# Altium schematic symbol library RD3399-20181013_Library.SchLib: 411 symbols (part 11 of 13)
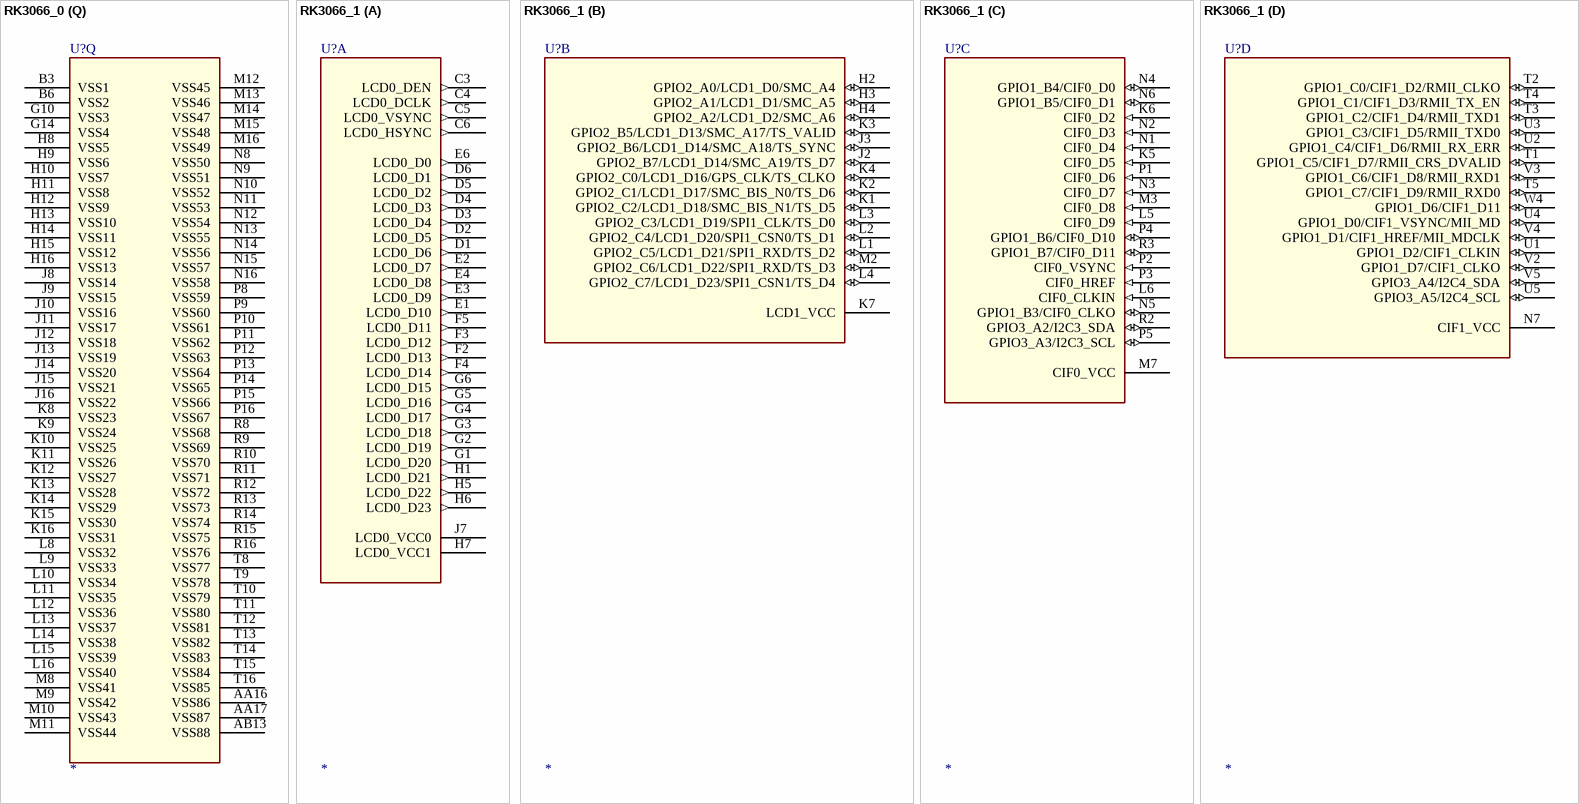
[diagram p195: symbols RK3066_0 to RK3066_1]

## RK3066_0
designator U?
footprint BGA453
part A pins: C3 LCD0_DEN (out), C4 LCD0_DCLK (out), C5 LCD0_VSYNC (out), C6 LCD0_HSYNC (out), D1 LCD0_D6 (out), D2 LCD0_D5 (out), D3 LCD0_D4 (out), D4 LCD0_D3 (out), D5 LCD0_D2 (out), D6 LCD0_D1 (out), E1 LCD0_D10 (out), E2 LCD0_D7 (out), E3 LCD0_D9 (out), E4 LCD0_D8 (out), E6 LCD0_D0 (out), F2 LCD0_D13 (out), F3 LCD0_D12 (out), F4 LCD0_D14 (out), F5 LCD0_D11 (out), G1 LCD0_D20 (out), G2 LCD0_D19 (out), G3 LCD0_D18 (out), G4 LCD0_D17 (out), G5 LCD0_D16 (out), G6 LCD0_D15 (out), H1 LCD0_D21 (out), H5 LCD0_D22 (out), H6 LCD0_D23 (out), H7 LCD0_VCC1 (power), J7 LCD0_VCC0 (power)
part B pins: H2 GPIO2_A0/LCD1_D0/SMC_A4 (io), H3 GPIO2_A1/LCD1_D1/SMC_A5 (io), H4 GPIO2_A2/LCD1_D2/SMC_A6 (io), J2 GPIO2_B7/LCD1_D14/SMC_A19/TS_D7 (io), J3 GPIO2_B6/LCD1_D14/SMC_A18/TS_SYNC (io), K1 GPIO2_C2/LCD1_D18/SMC_BIS_N1/TS_D5 (io), K2 GPIO2_C1/LCD1_D17/SMC_BIS_N0/TS_D6 (io), K3 GPIO2_B5/LCD1_D13/SMC_A17/TS_VALID (io), K4 GPIO2_C0/LCD1_D16/GPS_CLK/TS_CLKO (io), K7 LCD1_VCC (power), L1 GPIO2_C5/LCD1_D21/SPI1_RXD/TS_D2 (io), L2 GPIO2_C4/LCD1_D20/SPI1_CSN0/TS_D1 (io), L3 GPIO2_C3/LCD1_D19/SPI1_CLK/TS_D0 (io), L4 GPIO2_C7/LCD1_D23/SPI1_CSN1/TS_D4 (io), M2 GPIO2_C6/LCD1_D22/SPI1_RXD/TS_D3 (io)
part C pins: K5 CIF0_D5 (in), K6 CIF0_D2 (in), L5 CIF0_D9 (in), L6 CIF0_CLKIN (in), M3 CIF0_D8 (in), M7 CIF0_VCC (power), N1 CIF0_D4 (in), N2 CIF0_D3 (in), N3 CIF0_D7 (in), N4 GPIO1_B4/CIF0_D0 (io), N5 GPIO1_B3/CIF0_CLKO (io), N6 GPIO1_B5/CIF0_D1 (io), P1 CIF0_D6 (in), P2 CIF0_VSYNC (in), P3 CIF0_HREF (in), P4 GPIO1_B6/CIF0_D10 (io), P5 GPIO3_A3/I2C3_SCL (io), R2 GPIO3_A2/I2C3_SDA (io), R3 GPIO1_B7/CIF0_D11 (io)
part D pins: N7 CIF1_VCC (power), T1 GPIO1_C5/CIF1_D7/RMII_CRS_DVALID (io), T2 GPIO1_C0/CIF1_D2/RMII_CLKO (io), T3 GPIO1_C2/CIF1_D4/RMII_TXD1 (io), T4 GPIO1_C1/CIF1_D3/RMII_TX_EN (io), T5 GPIO1_C7/CIF1_D9/RMII_RXD0 (io), U1 GPIO1_D2/CIF1_CLKIN (io), U2 GPIO1_C4/CIF1_D6/RMII_RX_ERR (io), U3 GPIO1_C3/CIF1_D5/RMII_TXD0 (io), U4 GPIO1_D0/CIF1_VSYNC/MII_MD (io), U5 GPIO3_A5/I2C4_SCL (io), V2 GPIO1_D7/CIF1_CLKO (io), V3 GPIO1_C6/CIF1_D8/RMII_RXD1 (io), V4 GPIO1_D1/CIF1_HREF/MII_MDCLK (io), V5 GPIO3_A4/I2C4_SDA (io), W4 GPIO1_D6/CIF1_D11 (io)
part E pins: AA2 GPIO6_A4 (io), AA3 GPIO6_A5 (io), AA15 PVCC_3V3 (power), AB1 GPIO6_B0 (io), AB2 GPIO6_B1 (io), AB3 GPIO6_A1 (io), AB4 GPIO6_A7 (io), AB14 XOUT24M (out), AC1 GPIO6_A0 (io), AC2 GPIO6_A3 (io), AC4 GPIO6_A2 (io), AC5 GPIO6_A6 (io), AC13 DDRIO_RET_EN (out), AC14 XIN24M (in), U12 AVSS_APLL (power), U13 AVSS_DPLL (power), U14 AVSS_C/GPLL (power), V11 APLL_1V1 (power), V13 DPLL_1V1 (power), V14 C/GPLL_1V1 (power), V17 EFUSE (in), W13 PVDD_1V1 (power), Y1 CPU_PWROFF (out), Y2 CORE_PWROFF (out), Y3 DDRIO_PWROFF (out), Y4 GPIO6_B2 (io), Y5 GPIO6_B3 (io), Y13 CLKIN_32K (in), Y14 NPOR (in)
part F pins: AB15 HOST_RKELVIN (out), AB16 OTG_DM (io), AB17 HOST_DM (io), AC16 OTG_DP (io), AC17 HOST_DP (io), F19 GPIO0_A6/HOST_DRV (io), F20 TDO (out), G19 TDI/CPR_BYPASS (in), G20 TRSTN (in), H18 TCK/HSSCAN_SHIFT_CLOCK (in), H19 TMS/PLL_BYPASS (io), H20 RECOVER (in), P20 GPIO0_A5/OTG_DRV (io), U15 USBVDD_1V1 (power), U16 USBVDD_2V5 (power), V16 USBVDD_3V3 (power), W1 SARADC_ANI0 (in), W2 SARADC_ANI2 (in), W3 SARADC_ANI1 (in), W16 OTG_RKELVIN (out), W17 OTG_VBUS (in), Y17 OTG_ID (in)
part G pins: AA4 GPIO1_A4/UART1_RX/SPI0_CSN0 (io), AA5 GPIO4_B7/SPI0_CSN1 (io), AB5 GPIO1_A5/UART1_TX/SPI0_CLK (io), AB6 GPIO1_A6/UART1_CTSN/SPI0_RXD (io), AC7 GPIO1_A7/UART1_RTSN/SPI0_TXD (io), W18 AP1_VCC (power)
part H pins: AC23 GPIO3_B6/SDMMC0_DET (io), N22 GPIO3_B4/SDMMC0_D2 (io), N23 GPIO3_B5/SDMMC0_D3 (io), P18 GPIO3_A6/SDMMC0_RSTNO (io), P22 GPIO3_B3/SDMMC0_D1 (io), P23 GPIO3_B7/SDMMC0_WRITE_PRT (io), R22 GPIO3_A7/SDMMC0_PWR_EN (io), T21 GPIO3_B0/SDMMC0_CLKOUT (io), U19 GPIO3_B2/SDMMC0_D0 (io), U20 GPIO3_B1/SDMMC0_CMD (io)
part I pins: AA6 GPIO3_C1/SDMMC1_D0 (io), AA7 GPIO3_C2/SDMMC1_D1 (io), AA8 GPIO3_C7/SDMMC1_WRITE_PRT (io), AA9 GPIO1_A1/UART0_SOUT (io), AA10 GPIO0_C3/I2S1_LRCK_TX (io), AA12 GPIO1_A0/UART0_SIN (io), AB7 GPIO3_C0/SDMMC1_CMD (io), AB8 GPIO3_D2/SDMMC1_INT (io), AB9 GPIO0_C1/I2S1_SCLK (io), AB10 GPIO3_D1/SDMMC1_BACKEND (io), AB11 GPIO1_A2/UART0_CTS (io), AC8 GPIO3_C4/SDMMC1_D3 (io), AC10 GPIO3_C3/SDMMC1_D2 (io), AC11 GPIO0_C2/I2S1_LRCK_RX (io), U18 AP0_VCC (io), W6 GPIO3_C6/SDMMC1_DET (io), W7 GPIO0_C4/I2S1_SDI (io), W8 GPIO1_A3/UART0_RTS (io), Y6 GPIO3_C5/SDMMC1_CLKO (io), Y7 GPIO3_D0/SDMMC1_PWR_EN (io), Y8 GPIO0_C5/I2S1_SDO (io), Y11 GPIO0_C0/I2S1_CLK (io)
part J pins: AA11 GPIO4_C0/SMC_D0/TRACE_D0 (io), AA13 GPIO4_C4/SMC_D4/TRACE_D4 (io), AA14 GPIO4_D0/SMC_D8/TRACE_D8 (io), AA18 GPIO4_D3/SMC_D11/TRACE_D11 (io), AA19 GPIO4_D1/SMC_D9/TRACE_D9 (io), AA20 GPIO4_D5/SMC_D13/TRACE_D13 (io), AA21 GPIO0_D5/I2S2_SDO/SMC_A1 (io), AA22 GPIO0_D4/I2S2_SDI/SMC_A0 (io), AB12 GPIO4_C6/SMC_D6/TRACE_D6 (io), AB18 GPIO4_C3/SMC_D3/TRACE_D3 (io), AB19 GPIO4_D6/SMC_D14/TRACE_D14 (io), AB20 GPIO0_C7/SMC_A3/TRACE_CTL (io), AB21 GPIO0_D2/I2S2_LRCK_RX/SMC_OEN (io), AB23 GPIO0_C6/SMC_A2/TRACE_CLK (io), AC19 GPIO4_D7/SMC_D15/TRACE_D15 (io), AC20 GPIO4_D4/SMC_D12/TRACE_D12 (io), AC22 GPIO0_D3/I2S2_LRCK_TX/SMC_ADVN (io), R17 SMC_VCC (power), W14 GPIO4_C7/SMC_D7/TRACE_D7 (io), Y10 GPIO4_C1/SMC_D1/TRACE_D1 (io), Y16 GPIO4_C2/SMC_D2/TRACE_D2 (io), Y18 GPIO4_C5/SMC_D5/TRACE_D5 (io), Y19 GPIO4_D2/SMC_D10/TRACE_D10 (io), Y20 GPIO0_D1/I2S2_SCLK/SMC_WEN (io), Y23 GPIO0_D0/I2S2_CLK/SMC_CSN0 (io)
part K pins: AB22 FLASH_D0/EMMC_D0 (io), M17 FLASH_VCC0 (power), N17 FLASH_VCC1 (power), T18 GPIO4_B0/FLASH_CS1 (io), T19 GPIO4_B1/FLASH_CS2/EMMC_CMD (io), T20 GPIO4_B2/FLASH_CS3/EMMC_RST (io), T22 FLASH_ALE (out), T23 FLASH_CS0 (out), U21 FLASH_WP/EMMC_PWR_EN (out), U22 FLASH_D7/EMMC_D7 (io), U23 FLASH_D6/EMMC_D6 (io), V19 FLASH_RDN (out), V20 FLASH_CLE (out), V21 FLASH_RDY (out), V22 FLASH_D5/EMMC_D5 (io), W20 FLASH_WRN (out), W21 GPIO3_D7/FLASH_DQS/EMMC_CLKO (io), W22 FLASH_D4/EMMC_D4 (io), W23 FLASH_D3/EMMC_D3 (io), Y21 FLASH_D1/EMMC_D1 (io), Y22 FLASH_D2/EMMC_D2 (io)
part L pins: L18 GPIO0_B4/I2S0_D0 (io), L19 GPIO0_B7/I2S0_D3 (io), L21 GPIO1_B2/SPDIF_TX (io), L22 GPIO0_B5/I2S0_D1 (io), N10 GPIO0_B2/I2S0_LRCK_RX (io), N18 GPIO0_B6/I2S0_D2 (io), N21 GPIO0_B1/I2S0_SCLK (io), P19 GPIO0_A7/I2S0_SDI (io), P21 GPIO0_B3/I2S0_LRCK_TX (io), R21 GPIO0_B0/I2S0_CLK (io)
part M pins: G21 GPIO0_A3/PWM0 (io), G22 GPIO0_D6/PWM2 (io), G23 GPIO0_A4/PWM1 (io), H21 GPIO0_D7/PWM3 (io), H22 GPIO3_A1/I2C2_SCL (io), H23 GPIO2_D4/I2C0_SDA (io), J22 GPIO2_D5/I2C0_SCL (io), K20 GPIO3_D6/UART3_RTS (io), K21 GPIO3_D4/UART3_SOUT (io), K22 GPIO3_D3/UART3_SIN (io), K23 GPIO2_D6/I2C1_SDA (io), L20 GPIO3_D5/UART3_CTS (io), L23 GPIO1_B1/UART2_SOUT (io), M11 GPIO2_D7/I2C1_SCL (io), M22 GPIO1_B0/UART2_SIN (io), N19 GPIO3_A0/I2C2_SDA (io)
part N pins: A7 DDR_D27 (io), A8 DDR_DQS3n (out), A10 DDR_D14 (io), A11 DDR_DQS1n (out), A13 DDR_CS1 (out), A14 DDR_BA1 (out), A16 DDR_CLKn (out), A17 DDR_A11 (out), A19 DDR_D18 (io), A20 DDR_D19 (io), A22 DDR_DQS2n (out), A23 DDR_D23 (io), B7 DDR_D26 (io), B8 DDR_DQS3 (out), B9 DDR_D31 (io), B10 DDR_D12 (io), B11 DDR_DQS1 (out), B12 DDR_D15 (io), B13 DDR_CS0 (out), B14 DDR_BA0 (out), B15 DDR_A0 (out), B16 DDR_CLK (out), B17 DDR_A9 (out), B18 DDR_DM2 (out), B19 DDR_PZQ (in), B20 DDR_D21 (io), B21 DDR_D20 (io), B22 DDR_DQS2 (out), B23 DDR_D22 (io), C7 DDR_D25 (io), C8 DDR_D30 (io), C9 DDR_D8 (io), C10 DDR_D13 (io), C11 DDR_D11 (io), C12 DDR_D9 (io), C13 DDR_CKE1 (out), C14 DDR_RASn (out), C15 DDR_BA2 (out), C16 DDR_A7 (out), C17 DDR_A8 (out), C18 DDR_A13 (out), C19 DDR_ODT0 (out), C20 DDR_D17 (io), C21 DDR_D16 (io), C22 DDR_DM0 (out), D7 DDR_D24 (io), D8 DDR_D29 (io), D10 DDR_DM1 (out), D11 DDR_D10 (io), D13 DDR_CKE0 (out), D14 DDR_A1 (out), D16 DDR_A4 (out), D17 DDR_A5 (out), D18 DDR_A12 (out), D19 DDR_A2 (out), D20 DDR_D6 (io), D21 DDR_D3 (io), D22 DDR_D1 (io), D23 DDR_D0 (io), E7 DDR_DM3 (out), E8 DDR_D28 (io), E10 DDR_RETEN (in), E11 DDR_CASn (out), E13 DDR_WEn (out), E14 DDR_A3 (out), E16 DDR_A10 (out), E17 DDR_A14 (out), E18 DDR_ODT1 (out), E20 DDR_D7 (io), E21 DDR_D2 (io), E22 DDR_DQS0 (out), E23 DDR_DQS0n (out), F10 MVDD1 (power), F11 DDR_RESET (out), F13 DDR_VREF (power), F14 MVDD2 (power), F16 DDR_A6 (out), F17 MVDD3 (power), F21 DDR_D5 (io), F22 DDR_D4 (io), G9 MVDD4 (power), G11 MVDD5 (power), G13 MVDD6 (power), G15 MVDD7 (power), G18 MVDD7 (power)
part O pins: A1 HDMI_TX2 (out), A2 HDMI_TX1 (out), A4 HDMI_TX0 (out), A5 HDM I_TXC (out), B1 HDMI_TX2n (out), B2 HDMI_TX1n (out), B4 HDMI_TX0n (out), B5 HDM I_TXCn (out), C2 HDM I_REXT (out), F7 VDD25_HDMI (power), F8 VDD11_HDMI (power), J21 GPIO0_A1/HDMI_I2C_SCL (io), K18 GPIO0_A2/HDMI_I2C_SDA (io), K19 GPIO0_A0/HDMI_HOT_PLUG_IN (io)
part P pins: G8 CVDD1 (power), G12 CVDD2 (power), G16 CVDD3 (power), H17 CVDD4 (power), J17 VCCIO2 (power), K17 CVDD5 (power), L7 CVDD6 (power), L17 VCCIO1 (power), P7 VCCIO3 (power), P17 CVDD7 (power), R6 AVDD1 (power), R7 AVDD2 (power), T6 AVDD3 (power), T7 AVDD4 (power), T17 CVDD8 (power), U6 AVDD5 (power), U8 AVDD6 (power), U9 AVDD7 (power), U10 AVDD8 (power), U11 AVDD9 (power), V7 AVDD10 (power), V8 AVDD11 (power), V10 AVDD12 (power), W10 VCCIO4 (power), W11 AVDD_COM (out)
part Q pins: AA16 VSS86 (power), AA17 VSS87 (power), AB13 VSS88 (power), B3 VSS1 (power), B6 VSS2 (power), G10 VSS3 (power), G14 VSS4 (power), H8 VSS5 (power), H9 VSS6 (power), H10 VSS7 (power), H11 VSS8 (power), H12 VSS9 (power), H13 VSS10 (power), H14 VSS11 (power), H15 VSS12 (power), H16 VSS13 (power), J8 VSS14 (power), J9 VSS15 (power), J10 VSS16 (power), J11 VSS17 (power), J12 VSS18 (power), J13 VSS19 (power), J14 VSS20 (power), J15 VSS21 (power), J16 VSS22 (power), K8 VSS23 (power), K9 VSS24 (power), K10 VSS25 (power), K11 VSS26 (power), K12 VSS27 (power), K13 VSS28 (power), K14 VSS29 (power), K15 VSS30 (power), K16 VSS31 (power), L8 VSS32 (power), L9 VSS33 (power), L10 VSS34 (power), L11 VSS35 (power), L12 VSS36 (power), L13 VSS37 (power), L14 VSS38 (power), L15 VSS39 (power), L16 VSS40 (power), M8 VSS41 (power), M9 VSS42 (power), M10 VSS43 (power), M11 VSS44 (power), M12 VSS45 (power), M13 VSS46 (power), M14 VSS47 (power), M15 VSS48 (power), M16 VSS49 (power), N8 VSS50 (power), N9 VSS51 (power), N10 VSS52 (power), N11 VSS53 (power), N12 VSS54 (power), N13 VSS55 (power), N14 VSS56 (power), N15 VSS57 (power), N16 VSS58 (power), P8 VSS59 (power), P9 VSS60 (power), P10 VSS61 (power), P11 VSS62 (power), P12 VSS63 (power), P13 VSS64 (power), P14 VSS65 (power), P15 VSS66 (power), P16 VSS67 (power), R8 VSS68 (power), R9 VSS69 (power), R10 VSS70 (power), R11 VSS71 (power), R12 VSS72 (power), R13 VSS73 (power), R14 VSS74 (power), R15 VSS75 (power), R16 VSS76 (power), T8 VSS77 (power), T9 VSS78 (power), T10 VSS79 (power), T11 VSS80 (power), T12 VSS81 (power), T13 VSS82 (power), T14 VSS83 (power), T15 VSS84 (power), T16 VSS85 (power)

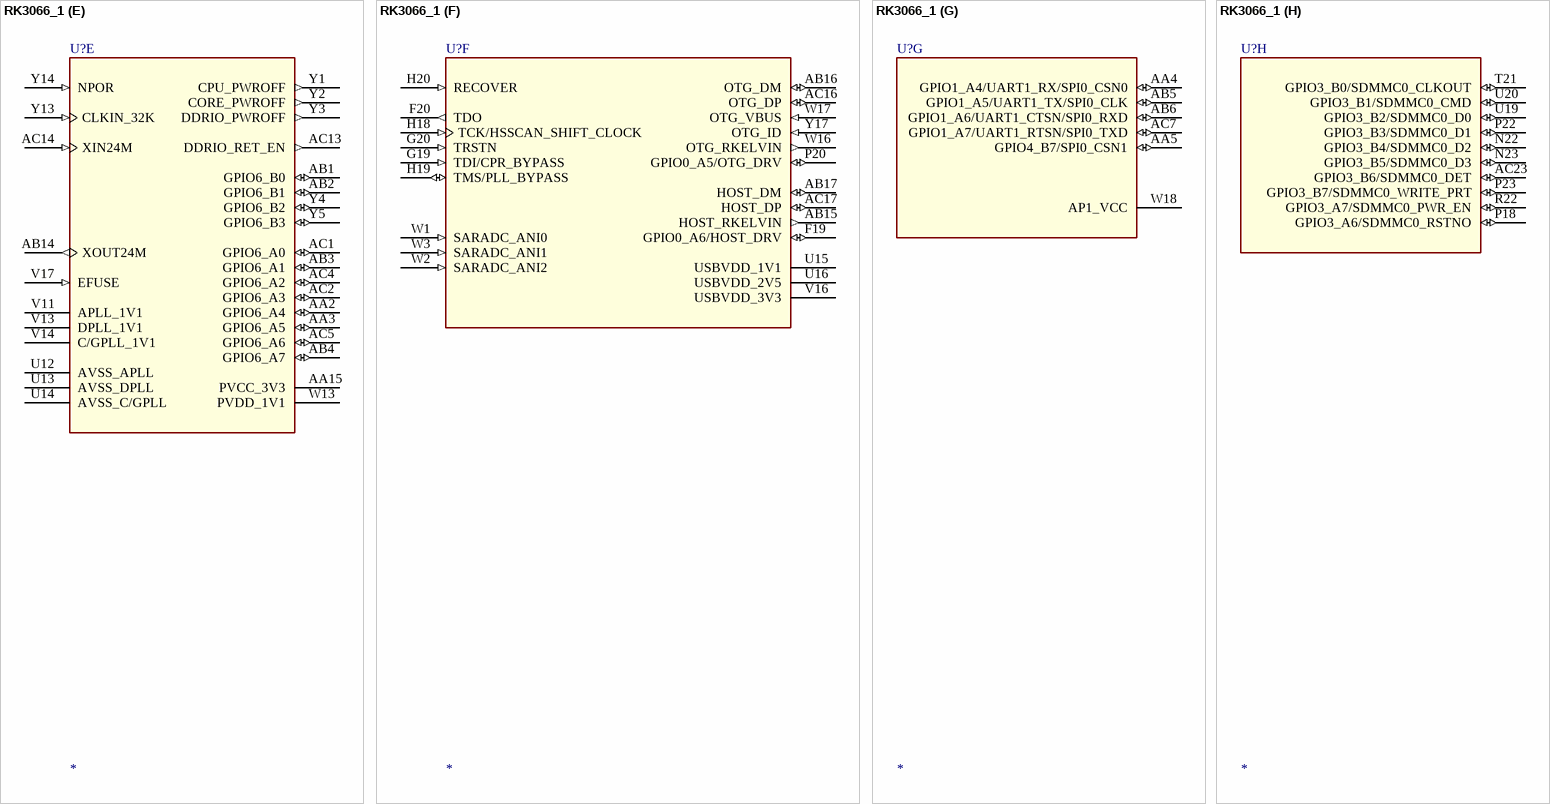
[diagram p146: symbol RK3066_1]

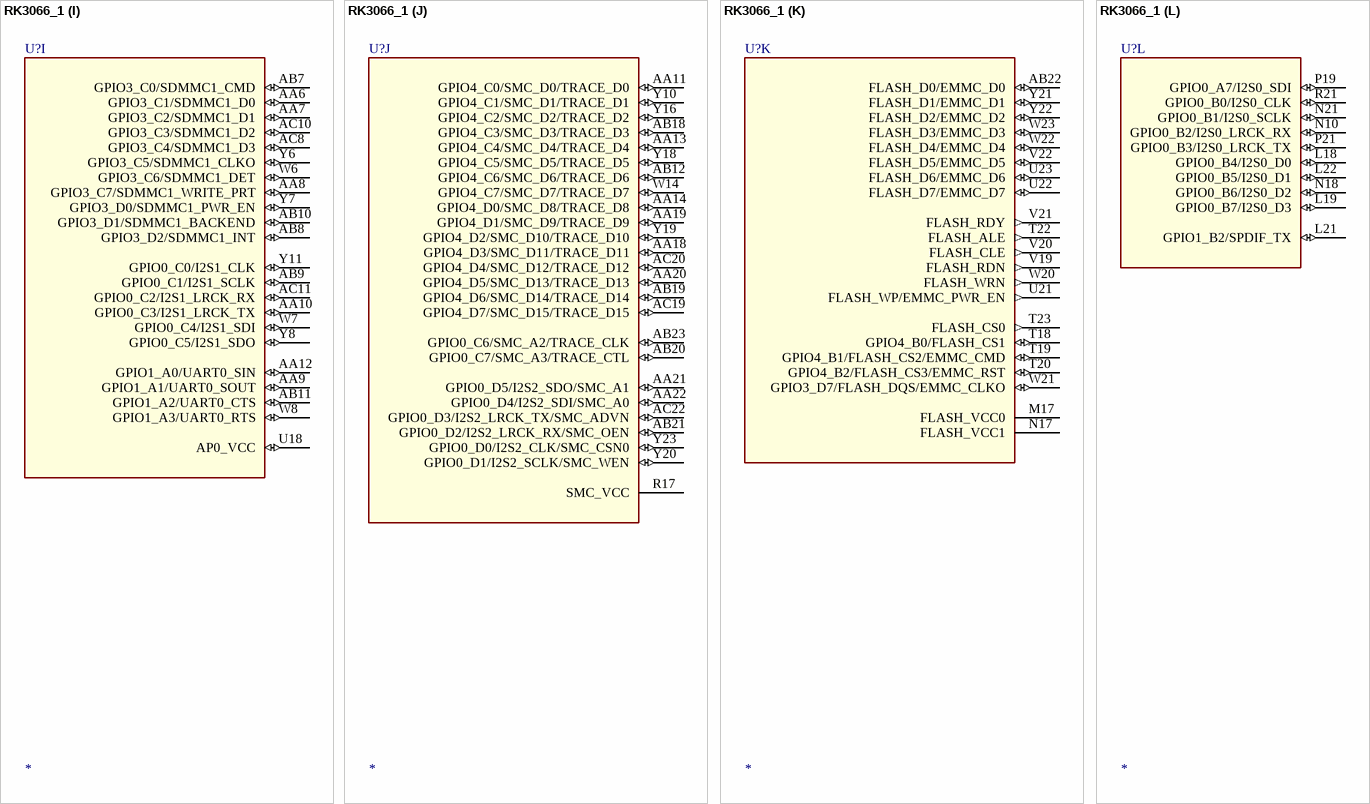
[diagram p147: symbol RK3066_1]

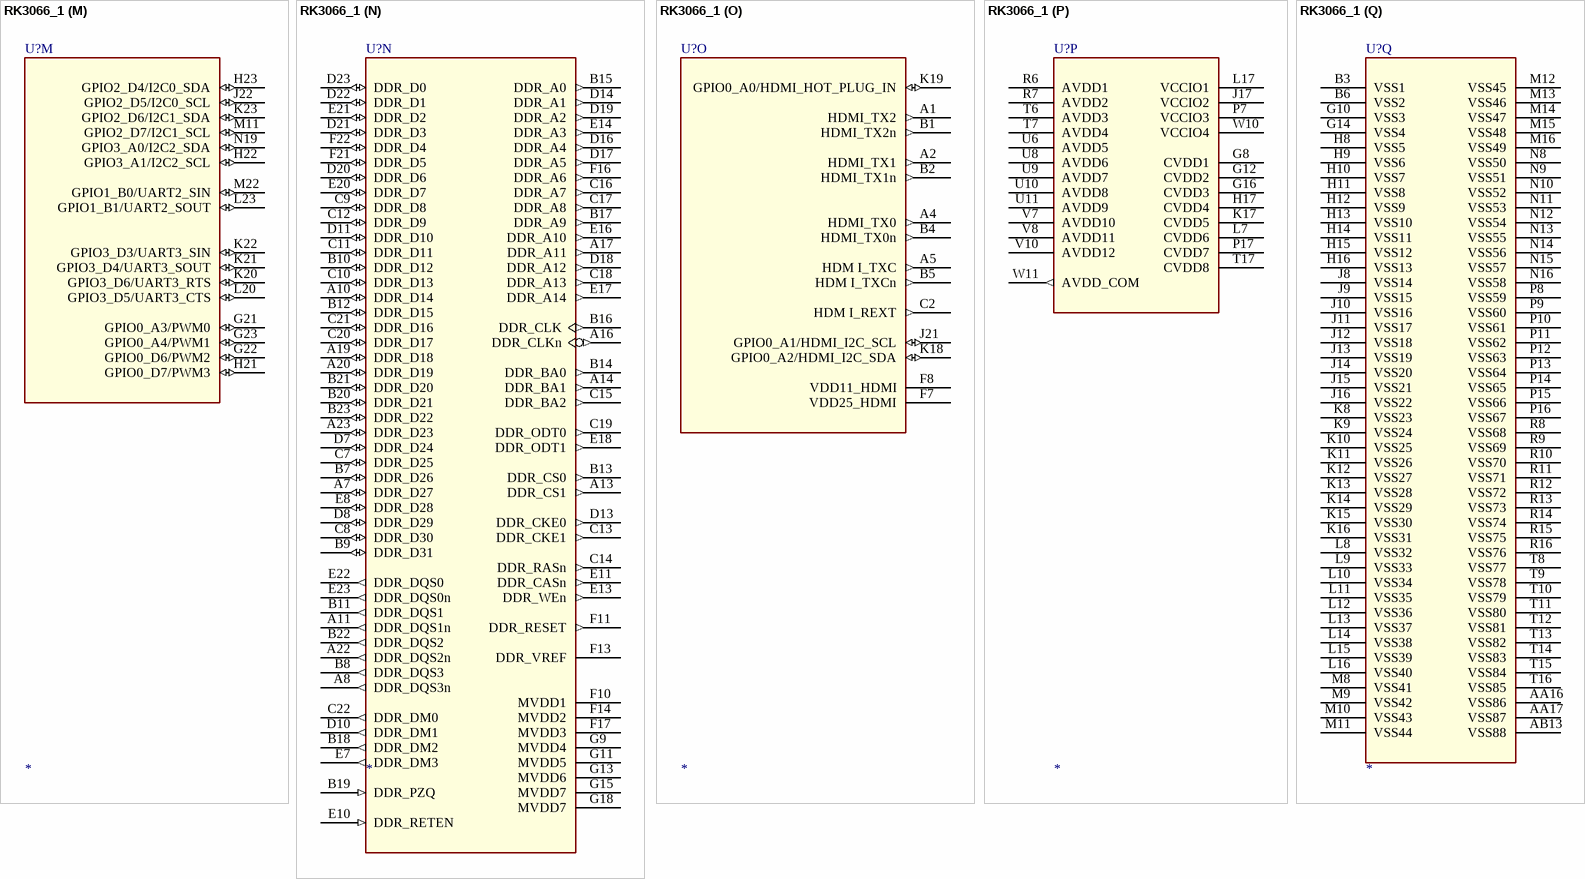
[diagram p148: symbol RK3066_1]

## RK3066_1
designator U?
footprint BGA453
part A pins: C3 LCD0_DEN (out), C4 LCD0_DCLK (out), C5 LCD0_VSYNC (out), C6 LCD0_HSYNC (out), D1 LCD0_D6 (out), D2 LCD0_D5 (out), D3 LCD0_D4 (out), D4 LCD0_D3 (out), D5 LCD0_D2 (out), D6 LCD0_D1 (out), E1 LCD0_D10 (out), E2 LCD0_D7 (out), E3 LCD0_D9 (out), E4 LCD0_D8 (out), E6 LCD0_D0 (out), F2 LCD0_D13 (out), F3 LCD0_D12 (out), F4 LCD0_D14 (out), F5 LCD0_D11 (out), G1 LCD0_D20 (out), G2 LCD0_D19 (out), G3 LCD0_D18 (out), G4 LCD0_D17 (out), G5 LCD0_D16 (out), G6 LCD0_D15 (out), H1 LCD0_D21 (out), H5 LCD0_D22 (out), H6 LCD0_D23 (out), H7 LCD0_VCC1 (power), J7 LCD0_VCC0 (power)
part B pins: H2 GPIO2_A0/LCD1_D0/SMC_A4 (io), H3 GPIO2_A1/LCD1_D1/SMC_A5 (io), H4 GPIO2_A2/LCD1_D2/SMC_A6 (io), J2 GPIO2_B7/LCD1_D14/SMC_A19/TS_D7 (io), J3 GPIO2_B6/LCD1_D14/SMC_A18/TS_SYNC (io), K1 GPIO2_C2/LCD1_D18/SMC_BIS_N1/TS_D5 (io), K2 GPIO2_C1/LCD1_D17/SMC_BIS_N0/TS_D6 (io), K3 GPIO2_B5/LCD1_D13/SMC_A17/TS_VALID (io), K4 GPIO2_C0/LCD1_D16/GPS_CLK/TS_CLKO (io), K7 LCD1_VCC (power), L1 GPIO2_C5/LCD1_D21/SPI1_RXD/TS_D2 (io), L2 GPIO2_C4/LCD1_D20/SPI1_CSN0/TS_D1 (io), L3 GPIO2_C3/LCD1_D19/SPI1_CLK/TS_D0 (io), L4 GPIO2_C7/LCD1_D23/SPI1_CSN1/TS_D4 (io), M2 GPIO2_C6/LCD1_D22/SPI1_RXD/TS_D3 (io)
part C pins: K5 CIF0_D5 (in), K6 CIF0_D2 (in), L5 CIF0_D9 (in), L6 CIF0_CLKIN (in), M3 CIF0_D8 (in), M7 CIF0_VCC (power), N1 CIF0_D4 (in), N2 CIF0_D3 (in), N3 CIF0_D7 (in), N4 GPIO1_B4/CIF0_D0 (io), N5 GPIO1_B3/CIF0_CLKO (io), N6 GPIO1_B5/CIF0_D1 (io), P1 CIF0_D6 (in), P2 CIF0_VSYNC (in), P3 CIF0_HREF (in), P4 GPIO1_B6/CIF0_D10 (io), P5 GPIO3_A3/I2C3_SCL (io), R2 GPIO3_A2/I2C3_SDA (io), R3 GPIO1_B7/CIF0_D11 (io)
part D pins: N7 CIF1_VCC (power), T1 GPIO1_C5/CIF1_D7/RMII_CRS_DVALID (io), T2 GPIO1_C0/CIF1_D2/RMII_CLKO (io), T3 GPIO1_C2/CIF1_D4/RMII_TXD1 (io), T4 GPIO1_C1/CIF1_D3/RMII_TX_EN (io), T5 GPIO1_C7/CIF1_D9/RMII_RXD0 (io), U1 GPIO1_D2/CIF1_CLKIN (io), U2 GPIO1_C4/CIF1_D6/RMII_RX_ERR (io), U3 GPIO1_C3/CIF1_D5/RMII_TXD0 (io), U4 GPIO1_D0/CIF1_VSYNC/MII_MD (io), U5 GPIO3_A5/I2C4_SCL (io), V2 GPIO1_D7/CIF1_CLKO (io), V3 GPIO1_C6/CIF1_D8/RMII_RXD1 (io), V4 GPIO1_D1/CIF1_HREF/MII_MDCLK (io), V5 GPIO3_A4/I2C4_SDA (io), W4 GPIO1_D6/CIF1_D11 (io)
part E pins: AA2 GPIO6_A4 (io), AA3 GPIO6_A5 (io), AA15 PVCC_3V3 (power), AB1 GPIO6_B0 (io), AB2 GPIO6_B1 (io), AB3 GPIO6_A1 (io), AB4 GPIO6_A7 (io), AB14 XOUT24M (out), AC1 GPIO6_A0 (io), AC2 GPIO6_A3 (io), AC4 GPIO6_A2 (io), AC5 GPIO6_A6 (io), AC13 DDRIO_RET_EN (out), AC14 XIN24M (in), U12 AVSS_APLL (power), U13 AVSS_DPLL (power), U14 AVSS_C/GPLL (power), V11 APLL_1V1 (power), V13 DPLL_1V1 (power), V14 C/GPLL_1V1 (power), V17 EFUSE (in), W13 PVDD_1V1 (power), Y1 CPU_PWROFF (out), Y2 CORE_PWROFF (out), Y3 DDRIO_PWROFF (out), Y4 GPIO6_B2 (io), Y5 GPIO6_B3 (io), Y13 CLKIN_32K (in), Y14 NPOR (in)
part F pins: AB15 HOST_RKELVIN (out), AB16 OTG_DM (io), AB17 HOST_DM (io), AC16 OTG_DP (io), AC17 HOST_DP (io), F19 GPIO0_A6/HOST_DRV (io), F20 TDO (out), G19 TDI/CPR_BYPASS (in), G20 TRSTN (in), H18 TCK/HSSCAN_SHIFT_CLOCK (in), H19 TMS/PLL_BYPASS (io), H20 RECOVER (in), P20 GPIO0_A5/OTG_DRV (io), U15 USBVDD_1V1 (power), U16 USBVDD_2V5 (power), V16 USBVDD_3V3 (power), W1 SARADC_ANI0 (in), W2 SARADC_ANI2 (in), W3 SARADC_ANI1 (in), W16 OTG_RKELVIN (out), W17 OTG_VBUS (in), Y17 OTG_ID (in)
part G pins: AA4 GPIO1_A4/UART1_RX/SPI0_CSN0 (io), AA5 GPIO4_B7/SPI0_CSN1 (io), AB5 GPIO1_A5/UART1_TX/SPI0_CLK (io), AB6 GPIO1_A6/UART1_CTSN/SPI0_RXD (io), AC7 GPIO1_A7/UART1_RTSN/SPI0_TXD (io), W18 AP1_VCC (power)
part H pins: AC23 GPIO3_B6/SDMMC0_DET (io), N22 GPIO3_B4/SDMMC0_D2 (io), N23 GPIO3_B5/SDMMC0_D3 (io), P18 GPIO3_A6/SDMMC0_RSTNO (io), P22 GPIO3_B3/SDMMC0_D1 (io), P23 GPIO3_B7/SDMMC0_WRITE_PRT (io), R22 GPIO3_A7/SDMMC0_PWR_EN (io), T21 GPIO3_B0/SDMMC0_CLKOUT (io), U19 GPIO3_B2/SDMMC0_D0 (io), U20 GPIO3_B1/SDMMC0_CMD (io)
part I pins: AA6 GPIO3_C1/SDMMC1_D0 (io), AA7 GPIO3_C2/SDMMC1_D1 (io), AA8 GPIO3_C7/SDMMC1_WRITE_PRT (io), AA9 GPIO1_A1/UART0_SOUT (io), AA10 GPIO0_C3/I2S1_LRCK_TX (io), AA12 GPIO1_A0/UART0_SIN (io), AB7 GPIO3_C0/SDMMC1_CMD (io), AB8 GPIO3_D2/SDMMC1_INT (io), AB9 GPIO0_C1/I2S1_SCLK (io), AB10 GPIO3_D1/SDMMC1_BACKEND (io), AB11 GPIO1_A2/UART0_CTS (io), AC8 GPIO3_C4/SDMMC1_D3 (io), AC10 GPIO3_C3/SDMMC1_D2 (io), AC11 GPIO0_C2/I2S1_LRCK_RX (io), U18 AP0_VCC (io), W6 GPIO3_C6/SDMMC1_DET (io), W7 GPIO0_C4/I2S1_SDI (io), W8 GPIO1_A3/UART0_RTS (io), Y6 GPIO3_C5/SDMMC1_CLKO (io), Y7 GPIO3_D0/SDMMC1_PWR_EN (io), Y8 GPIO0_C5/I2S1_SDO (io), Y11 GPIO0_C0/I2S1_CLK (io)
part J pins: AA11 GPIO4_C0/SMC_D0/TRACE_D0 (io), AA13 GPIO4_C4/SMC_D4/TRACE_D4 (io), AA14 GPIO4_D0/SMC_D8/TRACE_D8 (io), AA18 GPIO4_D3/SMC_D11/TRACE_D11 (io), AA19 GPIO4_D1/SMC_D9/TRACE_D9 (io), AA20 GPIO4_D5/SMC_D13/TRACE_D13 (io), AA21 GPIO0_D5/I2S2_SDO/SMC_A1 (io), AA22 GPIO0_D4/I2S2_SDI/SMC_A0 (io), AB12 GPIO4_C6/SMC_D6/TRACE_D6 (io), AB18 GPIO4_C3/SMC_D3/TRACE_D3 (io), AB19 GPIO4_D6/SMC_D14/TRACE_D14 (io), AB20 GPIO0_C7/SMC_A3/TRACE_CTL (io), AB21 GPIO0_D2/I2S2_LRCK_RX/SMC_OEN (io), AB23 GPIO0_C6/SMC_A2/TRACE_CLK (io), AC19 GPIO4_D7/SMC_D15/TRACE_D15 (io), AC20 GPIO4_D4/SMC_D12/TRACE_D12 (io), AC22 GPIO0_D3/I2S2_LRCK_TX/SMC_ADVN (io), R17 SMC_VCC (power), W14 GPIO4_C7/SMC_D7/TRACE_D7 (io), Y10 GPIO4_C1/SMC_D1/TRACE_D1 (io), Y16 GPIO4_C2/SMC_D2/TRACE_D2 (io), Y18 GPIO4_C5/SMC_D5/TRACE_D5 (io), Y19 GPIO4_D2/SMC_D10/TRACE_D10 (io), Y20 GPIO0_D1/I2S2_SCLK/SMC_WEN (io), Y23 GPIO0_D0/I2S2_CLK/SMC_CSN0 (io)
part K pins: AB22 FLASH_D0/EMMC_D0 (io), M17 FLASH_VCC0 (power), N17 FLASH_VCC1 (power), T18 GPIO4_B0/FLASH_CS1 (io), T19 GPIO4_B1/FLASH_CS2/EMMC_CMD (io), T20 GPIO4_B2/FLASH_CS3/EMMC_RST (io), T22 FLASH_ALE (out), T23 FLASH_CS0 (out), U21 FLASH_WP/EMMC_PWR_EN (out), U22 FLASH_D7/EMMC_D7 (io), U23 FLASH_D6/EMMC_D6 (io), V19 FLASH_RDN (out), V20 FLASH_CLE (out), V21 FLASH_RDY (out), V22 FLASH_D5/EMMC_D5 (io), W20 FLASH_WRN (out), W21 GPIO3_D7/FLASH_DQS/EMMC_CLKO (io), W22 FLASH_D4/EMMC_D4 (io), W23 FLASH_D3/EMMC_D3 (io), Y21 FLASH_D1/EMMC_D1 (io), Y22 FLASH_D2/EMMC_D2 (io)
part L pins: L18 GPIO0_B4/I2S0_D0 (io), L19 GPIO0_B7/I2S0_D3 (io), L21 GPIO1_B2/SPDIF_TX (io), L22 GPIO0_B5/I2S0_D1 (io), N10 GPIO0_B2/I2S0_LRCK_RX (io), N18 GPIO0_B6/I2S0_D2 (io), N21 GPIO0_B1/I2S0_SCLK (io), P19 GPIO0_A7/I2S0_SDI (io), P21 GPIO0_B3/I2S0_LRCK_TX (io), R21 GPIO0_B0/I2S0_CLK (io)
part M pins: G21 GPIO0_A3/PWM0 (io), G22 GPIO0_D6/PWM2 (io), G23 GPIO0_A4/PWM1 (io), H21 GPIO0_D7/PWM3 (io), H22 GPIO3_A1/I2C2_SCL (io), H23 GPIO2_D4/I2C0_SDA (io), J22 GPIO2_D5/I2C0_SCL (io), K20 GPIO3_D6/UART3_RTS (io), K21 GPIO3_D4/UART3_SOUT (io), K22 GPIO3_D3/UART3_SIN (io), K23 GPIO2_D6/I2C1_SDA (io), L20 GPIO3_D5/UART3_CTS (io), L23 GPIO1_B1/UART2_SOUT (io), M11 GPIO2_D7/I2C1_SCL (io), M22 GPIO1_B0/UART2_SIN (io), N19 GPIO3_A0/I2C2_SDA (io)
part N pins: A7 DDR_D27 (io), A8 DDR_DQS3n (out), A10 DDR_D14 (io), A11 DDR_DQS1n (out), A13 DDR_CS1 (out), A14 DDR_BA1 (out), A16 DDR_CLKn (out), A17 DDR_A11 (out), A19 DDR_D18 (io), A20 DDR_D19 (io), A22 DDR_DQS2n (out), A23 DDR_D23 (io), B7 DDR_D26 (io), B8 DDR_DQS3 (out), B9 DDR_D31 (io), B10 DDR_D12 (io), B11 DDR_DQS1 (out), B12 DDR_D15 (io), B13 DDR_CS0 (out), B14 DDR_BA0 (out), B15 DDR_A0 (out), B16 DDR_CLK (out), B17 DDR_A9 (out), B18 DDR_DM2 (out), B19 DDR_PZQ (in), B20 DDR_D21 (io), B21 DDR_D20 (io), B22 DDR_DQS2 (out), B23 DDR_D22 (io), C7 DDR_D25 (io), C8 DDR_D30 (io), C9 DDR_D8 (io), C10 DDR_D13 (io), C11 DDR_D11 (io), C12 DDR_D9 (io), C13 DDR_CKE1 (out), C14 DDR_RASn (out), C15 DDR_BA2 (out), C16 DDR_A7 (out), C17 DDR_A8 (out), C18 DDR_A13 (out), C19 DDR_ODT0 (out), C20 DDR_D17 (io), C21 DDR_D16 (io), C22 DDR_DM0 (out), D7 DDR_D24 (io), D8 DDR_D29 (io), D10 DDR_DM1 (out), D11 DDR_D10 (io), D13 DDR_CKE0 (out), D14 DDR_A1 (out), D16 DDR_A4 (out), D17 DDR_A5 (out), D18 DDR_A12 (out), D19 DDR_A2 (out), D20 DDR_D6 (io), D21 DDR_D3 (io), D22 DDR_D1 (io), D23 DDR_D0 (io), E7 DDR_DM3 (out), E8 DDR_D28 (io), E10 DDR_RETEN (in), E11 DDR_CASn (out), E13 DDR_WEn (out), E14 DDR_A3 (out), E16 DDR_A10 (out), E17 DDR_A14 (out), E18 DDR_ODT1 (out), E20 DDR_D7 (io), E21 DDR_D2 (io), E22 DDR_DQS0 (out), E23 DDR_DQS0n (out), F10 MVDD1 (power), F11 DDR_RESET (out), F13 DDR_VREF (power), F14 MVDD2 (power), F16 DDR_A6 (out), F17 MVDD3 (power), F21 DDR_D5 (io), F22 DDR_D4 (io), G9 MVDD4 (power), G11 MVDD5 (power), G13 MVDD6 (power), G15 MVDD7 (power), G18 MVDD7 (power)
part O pins: A1 HDMI_TX2 (out), A2 HDMI_TX1 (out), A4 HDMI_TX0 (out), A5 HDM I_TXC (out), B1 HDMI_TX2n (out), B2 HDMI_TX1n (out), B4 HDMI_TX0n (out), B5 HDM I_TXCn (out), C2 HDM I_REXT (out), F7 VDD25_HDMI (power), F8 VDD11_HDMI (power), J21 GPIO0_A1/HDMI_I2C_SCL (io), K18 GPIO0_A2/HDMI_I2C_SDA (io), K19 GPIO0_A0/HDMI_HOT_PLUG_IN (io)
part P pins: G8 CVDD1 (power), G12 CVDD2 (power), G16 CVDD3 (power), H17 CVDD4 (power), J17 VCCIO2 (power), K17 CVDD5 (power), L7 CVDD6 (power), L17 VCCIO1 (power), P7 VCCIO3 (power), P17 CVDD7 (power), R6 AVDD1 (power), R7 AVDD2 (power), T6 AVDD3 (power), T7 AVDD4 (power), T17 CVDD8 (power), U6 AVDD5 (power), U8 AVDD6 (power), U9 AVDD7 (power), U10 AVDD8 (power), U11 AVDD9 (power), V7 AVDD10 (power), V8 AVDD11 (power), V10 AVDD12 (power), W10 VCCIO4 (power), W11 AVDD_COM (out)
part Q pins: AA16 VSS86 (power), AA17 VSS87 (power), AB13 VSS88 (power), B3 VSS1 (power), B6 VSS2 (power), G10 VSS3 (power), G14 VSS4 (power), H8 VSS5 (power), H9 VSS6 (power), H10 VSS7 (power), H11 VSS8 (power), H12 VSS9 (power), H13 VSS10 (power), H14 VSS11 (power), H15 VSS12 (power), H16 VSS13 (power), J8 VSS14 (power), J9 VSS15 (power), J10 VSS16 (power), J11 VSS17 (power), J12 VSS18 (power), J13 VSS19 (power), J14 VSS20 (power), J15 VSS21 (power), J16 VSS22 (power), K8 VSS23 (power), K9 VSS24 (power), K10 VSS25 (power), K11 VSS26 (power), K12 VSS27 (power), K13 VSS28 (power), K14 VSS29 (power), K15 VSS30 (power), K16 VSS31 (power), L8 VSS32 (power), L9 VSS33 (power), L10 VSS34 (power), L11 VSS35 (power), L12 VSS36 (power), L13 VSS37 (power), L14 VSS38 (power), L15 VSS39 (power), L16 VSS40 (power), M8 VSS41 (power), M9 VSS42 (power), M10 VSS43 (power), M11 VSS44 (power), M12 VSS45 (power), M13 VSS46 (power), M14 VSS47 (power), M15 VSS48 (power), M16 VSS49 (power), N8 VSS50 (power), N9 VSS51 (power), N10 VSS52 (power), N11 VSS53 (power), N12 VSS54 (power), N13 VSS55 (power), N14 VSS56 (power), N15 VSS57 (power), N16 VSS58 (power), P8 VSS59 (power), P9 VSS60 (power), P10 VSS61 (power), P11 VSS62 (power), P12 VSS63 (power), P13 VSS64 (power), P14 VSS65 (power), P15 VSS66 (power), P16 VSS67 (power), R8 VSS68 (power), R9 VSS69 (power), R10 VSS70 (power), R11 VSS71 (power), R12 VSS72 (power), R13 VSS73 (power), R14 VSS74 (power), R15 VSS75 (power), R16 VSS76 (power), T8 VSS77 (power), T9 VSS78 (power), T10 VSS79 (power), T11 VSS80 (power), T12 VSS81 (power), T13 VSS82 (power), T14 VSS83 (power), T15 VSS84 (power), T16 VSS85 (power)

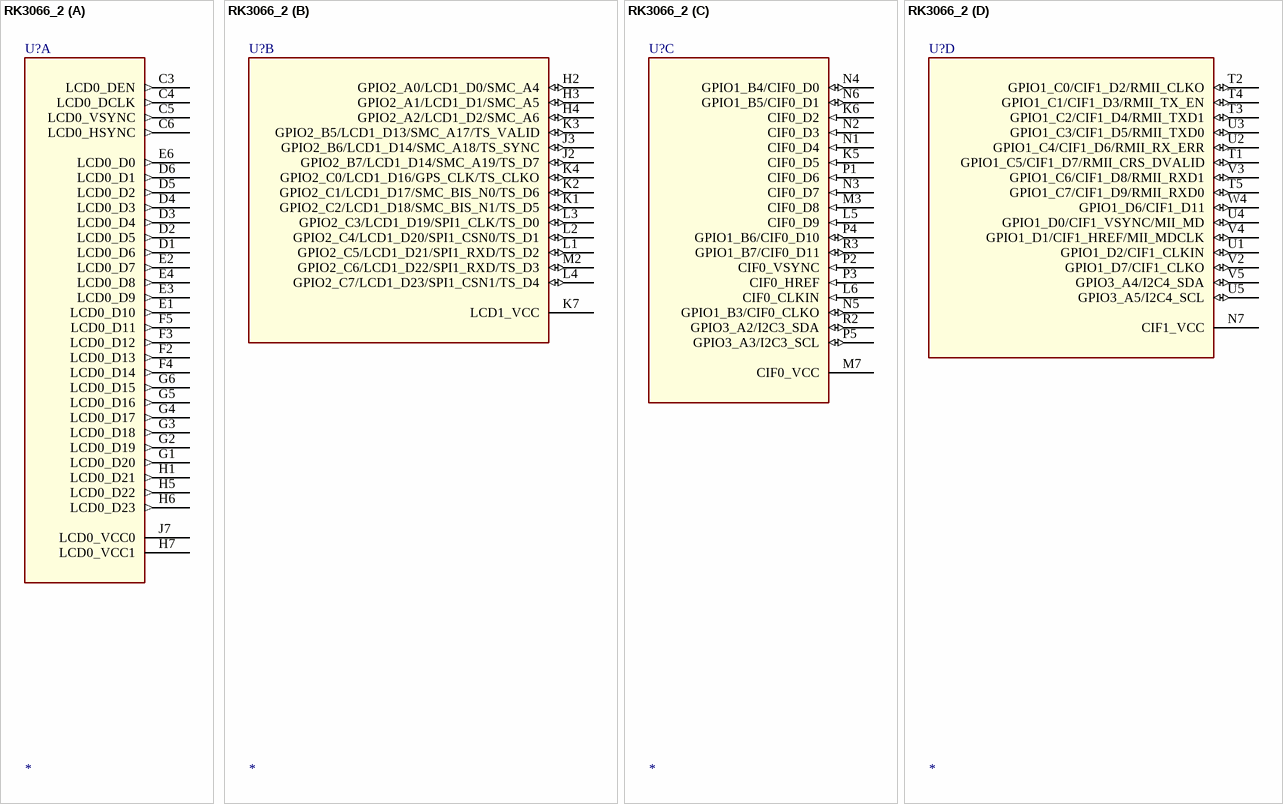
[diagram p149: symbol RK3066_2]

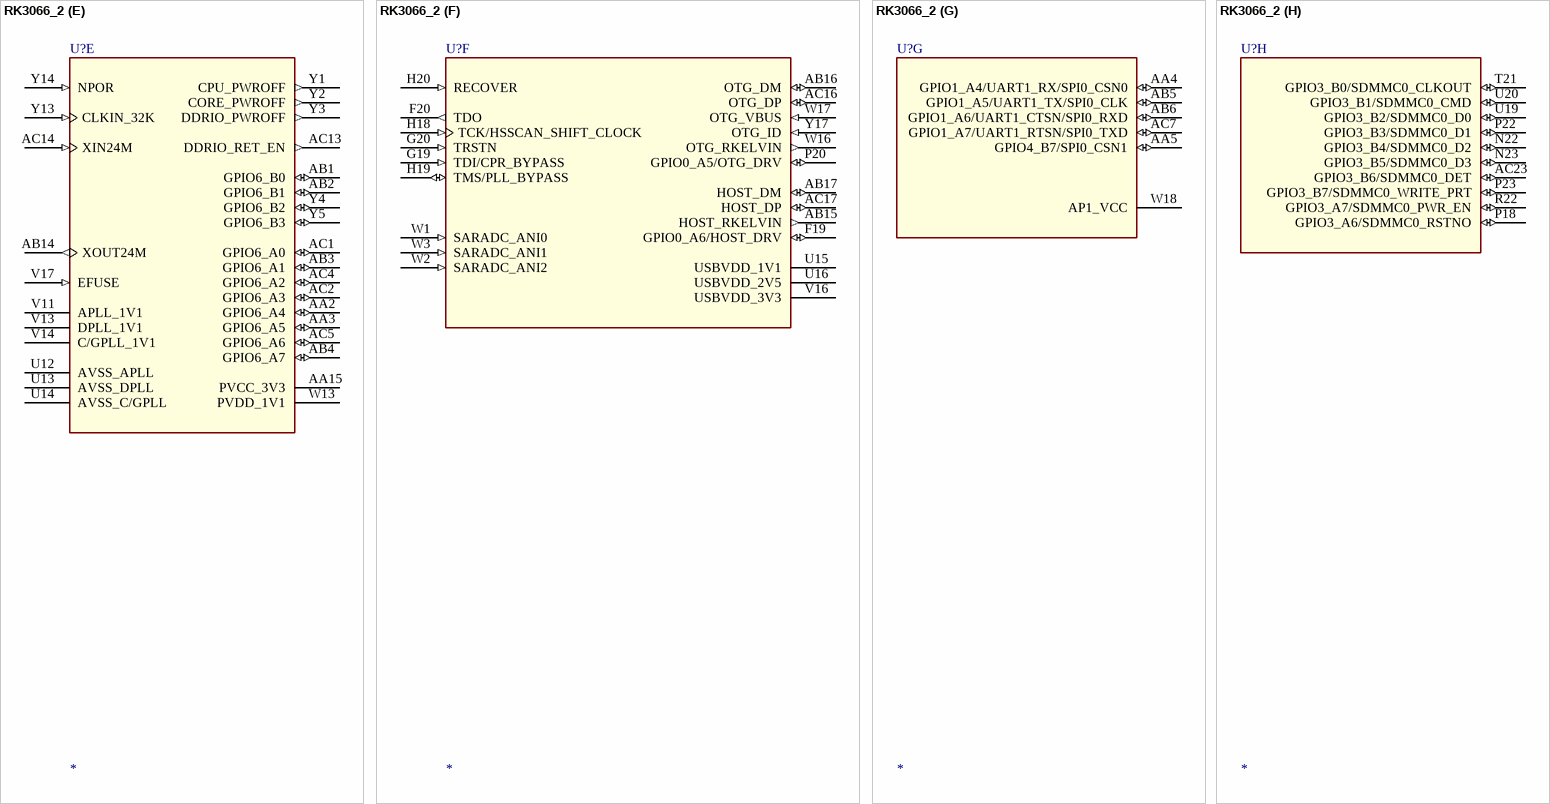
[diagram p150: symbol RK3066_2]

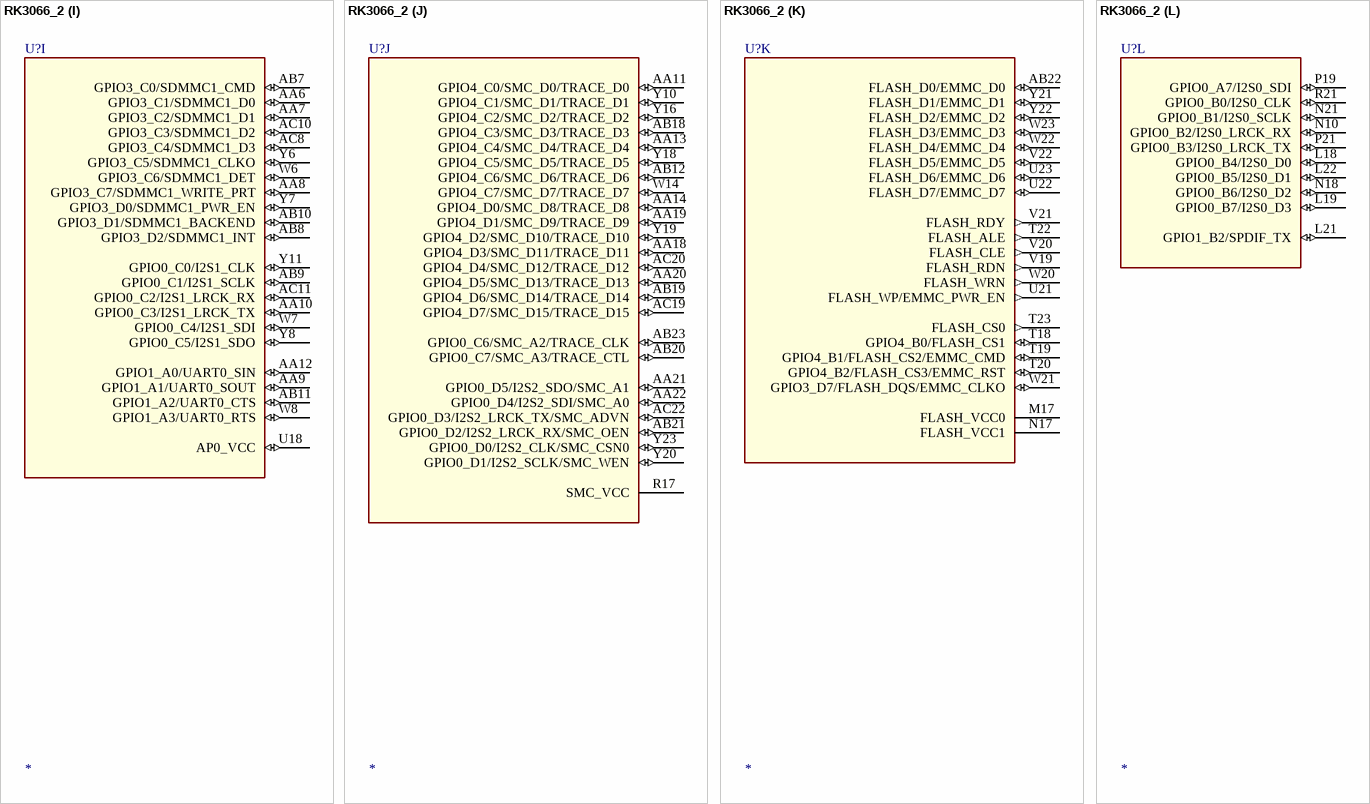
[diagram p151: symbol RK3066_2]

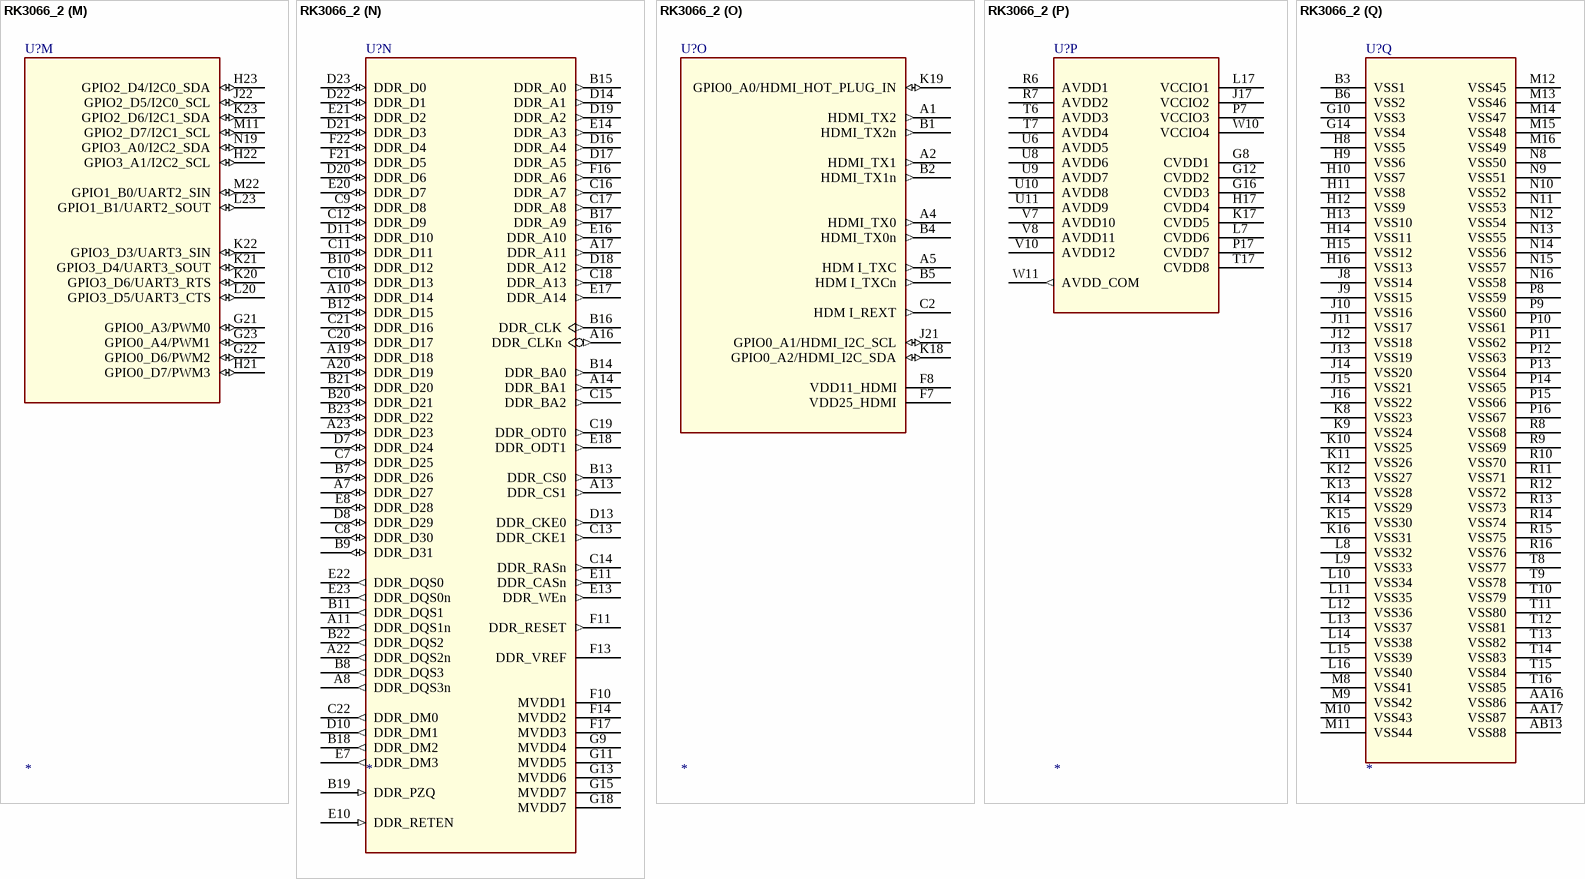
[diagram p152: symbol RK3066_2]

## RK3066_2
designator U?
footprint BGA453
part A pins: C3 LCD0_DEN (out), C4 LCD0_DCLK (out), C5 LCD0_VSYNC (out), C6 LCD0_HSYNC (out), D1 LCD0_D6 (out), D2 LCD0_D5 (out), D3 LCD0_D4 (out), D4 LCD0_D3 (out), D5 LCD0_D2 (out), D6 LCD0_D1 (out), E1 LCD0_D10 (out), E2 LCD0_D7 (out), E3 LCD0_D9 (out), E4 LCD0_D8 (out), E6 LCD0_D0 (out), F2 LCD0_D13 (out), F3 LCD0_D12 (out), F4 LCD0_D14 (out), F5 LCD0_D11 (out), G1 LCD0_D20 (out), G2 LCD0_D19 (out), G3 LCD0_D18 (out), G4 LCD0_D17 (out), G5 LCD0_D16 (out), G6 LCD0_D15 (out), H1 LCD0_D21 (out), H5 LCD0_D22 (out), H6 LCD0_D23 (out), H7 LCD0_VCC1 (power), J7 LCD0_VCC0 (power)
part B pins: H2 GPIO2_A0/LCD1_D0/SMC_A4 (io), H3 GPIO2_A1/LCD1_D1/SMC_A5 (io), H4 GPIO2_A2/LCD1_D2/SMC_A6 (io), J2 GPIO2_B7/LCD1_D14/SMC_A19/TS_D7 (io), J3 GPIO2_B6/LCD1_D14/SMC_A18/TS_SYNC (io), K1 GPIO2_C2/LCD1_D18/SMC_BIS_N1/TS_D5 (io), K2 GPIO2_C1/LCD1_D17/SMC_BIS_N0/TS_D6 (io), K3 GPIO2_B5/LCD1_D13/SMC_A17/TS_VALID (io), K4 GPIO2_C0/LCD1_D16/GPS_CLK/TS_CLKO (io), K7 LCD1_VCC (power), L1 GPIO2_C5/LCD1_D21/SPI1_RXD/TS_D2 (io), L2 GPIO2_C4/LCD1_D20/SPI1_CSN0/TS_D1 (io), L3 GPIO2_C3/LCD1_D19/SPI1_CLK/TS_D0 (io), L4 GPIO2_C7/LCD1_D23/SPI1_CSN1/TS_D4 (io), M2 GPIO2_C6/LCD1_D22/SPI1_RXD/TS_D3 (io)
part C pins: K5 CIF0_D5 (in), K6 CIF0_D2 (in), L5 CIF0_D9 (in), L6 CIF0_CLKIN (in), M3 CIF0_D8 (in), M7 CIF0_VCC (power), N1 CIF0_D4 (in), N2 CIF0_D3 (in), N3 CIF0_D7 (in), N4 GPIO1_B4/CIF0_D0 (io), N5 GPIO1_B3/CIF0_CLKO (io), N6 GPIO1_B5/CIF0_D1 (io), P1 CIF0_D6 (in), P2 CIF0_VSYNC (in), P3 CIF0_HREF (in), P4 GPIO1_B6/CIF0_D10 (io), P5 GPIO3_A3/I2C3_SCL (io), R2 GPIO3_A2/I2C3_SDA (io), R3 GPIO1_B7/CIF0_D11 (io)
part D pins: N7 CIF1_VCC (power), T1 GPIO1_C5/CIF1_D7/RMII_CRS_DVALID (io), T2 GPIO1_C0/CIF1_D2/RMII_CLKO (io), T3 GPIO1_C2/CIF1_D4/RMII_TXD1 (io), T4 GPIO1_C1/CIF1_D3/RMII_TX_EN (io), T5 GPIO1_C7/CIF1_D9/RMII_RXD0 (io), U1 GPIO1_D2/CIF1_CLKIN (io), U2 GPIO1_C4/CIF1_D6/RMII_RX_ERR (io), U3 GPIO1_C3/CIF1_D5/RMII_TXD0 (io), U4 GPIO1_D0/CIF1_VSYNC/MII_MD (io), U5 GPIO3_A5/I2C4_SCL (io), V2 GPIO1_D7/CIF1_CLKO (io), V3 GPIO1_C6/CIF1_D8/RMII_RXD1 (io), V4 GPIO1_D1/CIF1_HREF/MII_MDCLK (io), V5 GPIO3_A4/I2C4_SDA (io), W4 GPIO1_D6/CIF1_D11 (io)
part E pins: AA2 GPIO6_A4 (io), AA3 GPIO6_A5 (io), AA15 PVCC_3V3 (power), AB1 GPIO6_B0 (io), AB2 GPIO6_B1 (io), AB3 GPIO6_A1 (io), AB4 GPIO6_A7 (io), AB14 XOUT24M (out), AC1 GPIO6_A0 (io), AC2 GPIO6_A3 (io), AC4 GPIO6_A2 (io), AC5 GPIO6_A6 (io), AC13 DDRIO_RET_EN (out), AC14 XIN24M (in), U12 AVSS_APLL (power), U13 AVSS_DPLL (power), U14 AVSS_C/GPLL (power), V11 APLL_1V1 (power), V13 DPLL_1V1 (power), V14 C/GPLL_1V1 (power), V17 EFUSE (in), W13 PVDD_1V1 (power), Y1 CPU_PWROFF (out), Y2 CORE_PWROFF (out), Y3 DDRIO_PWROFF (out), Y4 GPIO6_B2 (io), Y5 GPIO6_B3 (io), Y13 CLKIN_32K (in), Y14 NPOR (in)
part F pins: AB15 HOST_RKELVIN (out), AB16 OTG_DM (io), AB17 HOST_DM (io), AC16 OTG_DP (io), AC17 HOST_DP (io), F19 GPIO0_A6/HOST_DRV (io), F20 TDO (out), G19 TDI/CPR_BYPASS (in), G20 TRSTN (in), H18 TCK/HSSCAN_SHIFT_CLOCK (in), H19 TMS/PLL_BYPASS (io), H20 RECOVER (in), P20 GPIO0_A5/OTG_DRV (io), U15 USBVDD_1V1 (power), U16 USBVDD_2V5 (power), V16 USBVDD_3V3 (power), W1 SARADC_ANI0 (in), W2 SARADC_ANI2 (in), W3 SARADC_ANI1 (in), W16 OTG_RKELVIN (out), W17 OTG_VBUS (in), Y17 OTG_ID (in)
part G pins: AA4 GPIO1_A4/UART1_RX/SPI0_CSN0 (io), AA5 GPIO4_B7/SPI0_CSN1 (io), AB5 GPIO1_A5/UART1_TX/SPI0_CLK (io), AB6 GPIO1_A6/UART1_CTSN/SPI0_RXD (io), AC7 GPIO1_A7/UART1_RTSN/SPI0_TXD (io), W18 AP1_VCC (power)
part H pins: AC23 GPIO3_B6/SDMMC0_DET (io), N22 GPIO3_B4/SDMMC0_D2 (io), N23 GPIO3_B5/SDMMC0_D3 (io), P18 GPIO3_A6/SDMMC0_RSTNO (io), P22 GPIO3_B3/SDMMC0_D1 (io), P23 GPIO3_B7/SDMMC0_WRITE_PRT (io), R22 GPIO3_A7/SDMMC0_PWR_EN (io), T21 GPIO3_B0/SDMMC0_CLKOUT (io), U19 GPIO3_B2/SDMMC0_D0 (io), U20 GPIO3_B1/SDMMC0_CMD (io)
part I pins: AA6 GPIO3_C1/SDMMC1_D0 (io), AA7 GPIO3_C2/SDMMC1_D1 (io), AA8 GPIO3_C7/SDMMC1_WRITE_PRT (io), AA9 GPIO1_A1/UART0_SOUT (io), AA10 GPIO0_C3/I2S1_LRCK_TX (io), AA12 GPIO1_A0/UART0_SIN (io), AB7 GPIO3_C0/SDMMC1_CMD (io), AB8 GPIO3_D2/SDMMC1_INT (io), AB9 GPIO0_C1/I2S1_SCLK (io), AB10 GPIO3_D1/SDMMC1_BACKEND (io), AB11 GPIO1_A2/UART0_CTS (io), AC8 GPIO3_C4/SDMMC1_D3 (io), AC10 GPIO3_C3/SDMMC1_D2 (io), AC11 GPIO0_C2/I2S1_LRCK_RX (io), U18 AP0_VCC (io), W6 GPIO3_C6/SDMMC1_DET (io), W7 GPIO0_C4/I2S1_SDI (io), W8 GPIO1_A3/UART0_RTS (io), Y6 GPIO3_C5/SDMMC1_CLKO (io), Y7 GPIO3_D0/SDMMC1_PWR_EN (io), Y8 GPIO0_C5/I2S1_SDO (io), Y11 GPIO0_C0/I2S1_CLK (io)
part J pins: AA11 GPIO4_C0/SMC_D0/TRACE_D0 (io), AA13 GPIO4_C4/SMC_D4/TRACE_D4 (io), AA14 GPIO4_D0/SMC_D8/TRACE_D8 (io), AA18 GPIO4_D3/SMC_D11/TRACE_D11 (io), AA19 GPIO4_D1/SMC_D9/TRACE_D9 (io), AA20 GPIO4_D5/SMC_D13/TRACE_D13 (io), AA21 GPIO0_D5/I2S2_SDO/SMC_A1 (io), AA22 GPIO0_D4/I2S2_SDI/SMC_A0 (io), AB12 GPIO4_C6/SMC_D6/TRACE_D6 (io), AB18 GPIO4_C3/SMC_D3/TRACE_D3 (io), AB19 GPIO4_D6/SMC_D14/TRACE_D14 (io), AB20 GPIO0_C7/SMC_A3/TRACE_CTL (io), AB21 GPIO0_D2/I2S2_LRCK_RX/SMC_OEN (io), AB23 GPIO0_C6/SMC_A2/TRACE_CLK (io), AC19 GPIO4_D7/SMC_D15/TRACE_D15 (io), AC20 GPIO4_D4/SMC_D12/TRACE_D12 (io), AC22 GPIO0_D3/I2S2_LRCK_TX/SMC_ADVN (io), R17 SMC_VCC (power), W14 GPIO4_C7/SMC_D7/TRACE_D7 (io), Y10 GPIO4_C1/SMC_D1/TRACE_D1 (io), Y16 GPIO4_C2/SMC_D2/TRACE_D2 (io), Y18 GPIO4_C5/SMC_D5/TRACE_D5 (io), Y19 GPIO4_D2/SMC_D10/TRACE_D10 (io), Y20 GPIO0_D1/I2S2_SCLK/SMC_WEN (io), Y23 GPIO0_D0/I2S2_CLK/SMC_CSN0 (io)
part K pins: AB22 FLASH_D0/EMMC_D0 (io), M17 FLASH_VCC0 (power), N17 FLASH_VCC1 (power), T18 GPIO4_B0/FLASH_CS1 (io), T19 GPIO4_B1/FLASH_CS2/EMMC_CMD (io), T20 GPIO4_B2/FLASH_CS3/EMMC_RST (io), T22 FLASH_ALE (out), T23 FLASH_CS0 (out), U21 FLASH_WP/EMMC_PWR_EN (out), U22 FLASH_D7/EMMC_D7 (io), U23 FLASH_D6/EMMC_D6 (io), V19 FLASH_RDN (out), V20 FLASH_CLE (out), V21 FLASH_RDY (out), V22 FLASH_D5/EMMC_D5 (io), W20 FLASH_WRN (out), W21 GPIO3_D7/FLASH_DQS/EMMC_CLKO (io), W22 FLASH_D4/EMMC_D4 (io), W23 FLASH_D3/EMMC_D3 (io), Y21 FLASH_D1/EMMC_D1 (io), Y22 FLASH_D2/EMMC_D2 (io)
part L pins: L18 GPIO0_B4/I2S0_D0 (io), L19 GPIO0_B7/I2S0_D3 (io), L21 GPIO1_B2/SPDIF_TX (io), L22 GPIO0_B5/I2S0_D1 (io), N10 GPIO0_B2/I2S0_LRCK_RX (io), N18 GPIO0_B6/I2S0_D2 (io), N21 GPIO0_B1/I2S0_SCLK (io), P19 GPIO0_A7/I2S0_SDI (io), P21 GPIO0_B3/I2S0_LRCK_TX (io), R21 GPIO0_B0/I2S0_CLK (io)
part M pins: G21 GPIO0_A3/PWM0 (io), G22 GPIO0_D6/PWM2 (io), G23 GPIO0_A4/PWM1 (io), H21 GPIO0_D7/PWM3 (io), H22 GPIO3_A1/I2C2_SCL (io), H23 GPIO2_D4/I2C0_SDA (io), J22 GPIO2_D5/I2C0_SCL (io), K20 GPIO3_D6/UART3_RTS (io), K21 GPIO3_D4/UART3_SOUT (io), K22 GPIO3_D3/UART3_SIN (io), K23 GPIO2_D6/I2C1_SDA (io), L20 GPIO3_D5/UART3_CTS (io), L23 GPIO1_B1/UART2_SOUT (io), M11 GPIO2_D7/I2C1_SCL (io), M22 GPIO1_B0/UART2_SIN (io), N19 GPIO3_A0/I2C2_SDA (io)
part N pins: A7 DDR_D27 (io), A8 DDR_DQS3n (out), A10 DDR_D14 (io), A11 DDR_DQS1n (out), A13 DDR_CS1 (out), A14 DDR_BA1 (out), A16 DDR_CLKn (out), A17 DDR_A11 (out), A19 DDR_D18 (io), A20 DDR_D19 (io), A22 DDR_DQS2n (out), A23 DDR_D23 (io), B7 DDR_D26 (io), B8 DDR_DQS3 (out), B9 DDR_D31 (io), B10 DDR_D12 (io), B11 DDR_DQS1 (out), B12 DDR_D15 (io), B13 DDR_CS0 (out), B14 DDR_BA0 (out), B15 DDR_A0 (out), B16 DDR_CLK (out), B17 DDR_A9 (out), B18 DDR_DM2 (out), B19 DDR_PZQ (in), B20 DDR_D21 (io), B21 DDR_D20 (io), B22 DDR_DQS2 (out), B23 DDR_D22 (io), C7 DDR_D25 (io), C8 DDR_D30 (io), C9 DDR_D8 (io), C10 DDR_D13 (io), C11 DDR_D11 (io), C12 DDR_D9 (io), C13 DDR_CKE1 (out), C14 DDR_RASn (out), C15 DDR_BA2 (out), C16 DDR_A7 (out), C17 DDR_A8 (out), C18 DDR_A13 (out), C19 DDR_ODT0 (out), C20 DDR_D17 (io), C21 DDR_D16 (io), C22 DDR_DM0 (out), D7 DDR_D24 (io), D8 DDR_D29 (io), D10 DDR_DM1 (out), D11 DDR_D10 (io), D13 DDR_CKE0 (out), D14 DDR_A1 (out), D16 DDR_A4 (out), D17 DDR_A5 (out), D18 DDR_A12 (out), D19 DDR_A2 (out), D20 DDR_D6 (io), D21 DDR_D3 (io), D22 DDR_D1 (io), D23 DDR_D0 (io), E7 DDR_DM3 (out), E8 DDR_D28 (io), E10 DDR_RETEN (in), E11 DDR_CASn (out), E13 DDR_WEn (out), E14 DDR_A3 (out), E16 DDR_A10 (out), E17 DDR_A14 (out), E18 DDR_ODT1 (out), E20 DDR_D7 (io), E21 DDR_D2 (io), E22 DDR_DQS0 (out), E23 DDR_DQS0n (out), F10 MVDD1 (power), F11 DDR_RESET (out), F13 DDR_VREF (power), F14 MVDD2 (power), F16 DDR_A6 (out), F17 MVDD3 (power), F21 DDR_D5 (io), F22 DDR_D4 (io), G9 MVDD4 (power), G11 MVDD5 (power), G13 MVDD6 (power), G15 MVDD7 (power), G18 MVDD7 (power)
part O pins: A1 HDMI_TX2 (out), A2 HDMI_TX1 (out), A4 HDMI_TX0 (out), A5 HDM I_TXC (out), B1 HDMI_TX2n (out), B2 HDMI_TX1n (out), B4 HDMI_TX0n (out), B5 HDM I_TXCn (out), C2 HDM I_REXT (out), F7 VDD25_HDMI (power), F8 VDD11_HDMI (power), J21 GPIO0_A1/HDMI_I2C_SCL (io), K18 GPIO0_A2/HDMI_I2C_SDA (io), K19 GPIO0_A0/HDMI_HOT_PLUG_IN (io)
part P pins: G8 CVDD1 (power), G12 CVDD2 (power), G16 CVDD3 (power), H17 CVDD4 (power), J17 VCCIO2 (power), K17 CVDD5 (power), L7 CVDD6 (power), L17 VCCIO1 (power), P7 VCCIO3 (power), P17 CVDD7 (power), R6 AVDD1 (power), R7 AVDD2 (power), T6 AVDD3 (power), T7 AVDD4 (power), T17 CVDD8 (power), U6 AVDD5 (power), U8 AVDD6 (power), U9 AVDD7 (power), U10 AVDD8 (power), U11 AVDD9 (power), V7 AVDD10 (power), V8 AVDD11 (power), V10 AVDD12 (power), W10 VCCIO4 (power), W11 AVDD_COM (out)
part Q pins: AA16 VSS86 (power), AA17 VSS87 (power), AB13 VSS88 (power), B3 VSS1 (power), B6 VSS2 (power), G10 VSS3 (power), G14 VSS4 (power), H8 VSS5 (power), H9 VSS6 (power), H10 VSS7 (power), H11 VSS8 (power), H12 VSS9 (power), H13 VSS10 (power), H14 VSS11 (power), H15 VSS12 (power), H16 VSS13 (power), J8 VSS14 (power), J9 VSS15 (power), J10 VSS16 (power), J11 VSS17 (power), J12 VSS18 (power), J13 VSS19 (power), J14 VSS20 (power), J15 VSS21 (power), J16 VSS22 (power), K8 VSS23 (power), K9 VSS24 (power), K10 VSS25 (power), K11 VSS26 (power), K12 VSS27 (power), K13 VSS28 (power), K14 VSS29 (power), K15 VSS30 (power), K16 VSS31 (power), L8 VSS32 (power), L9 VSS33 (power), L10 VSS34 (power), L11 VSS35 (power), L12 VSS36 (power), L13 VSS37 (power), L14 VSS38 (power), L15 VSS39 (power), L16 VSS40 (power), M8 VSS41 (power), M9 VSS42 (power), M10 VSS43 (power), M11 VSS44 (power), M12 VSS45 (power), M13 VSS46 (power), M14 VSS47 (power), M15 VSS48 (power), M16 VSS49 (power), N8 VSS50 (power), N9 VSS51 (power), N10 VSS52 (power), N11 VSS53 (power), N12 VSS54 (power), N13 VSS55 (power), N14 VSS56 (power), N15 VSS57 (power), N16 VSS58 (power), P8 VSS59 (power), P9 VSS60 (power), P10 VSS61 (power), P11 VSS62 (power), P12 VSS63 (power), P13 VSS64 (power), P14 VSS65 (power), P15 VSS66 (power), P16 VSS67 (power), R8 VSS68 (power), R9 VSS69 (power), R10 VSS70 (power), R11 VSS71 (power), R12 VSS72 (power), R13 VSS73 (power), R14 VSS74 (power), R15 VSS75 (power), R16 VSS76 (power), T8 VSS77 (power), T9 VSS78 (power), T10 VSS79 (power), T11 VSS80 (power), T12 VSS81 (power), T13 VSS82 (power), T14 VSS83 (power), T15 VSS84 (power), T16 VSS85 (power)

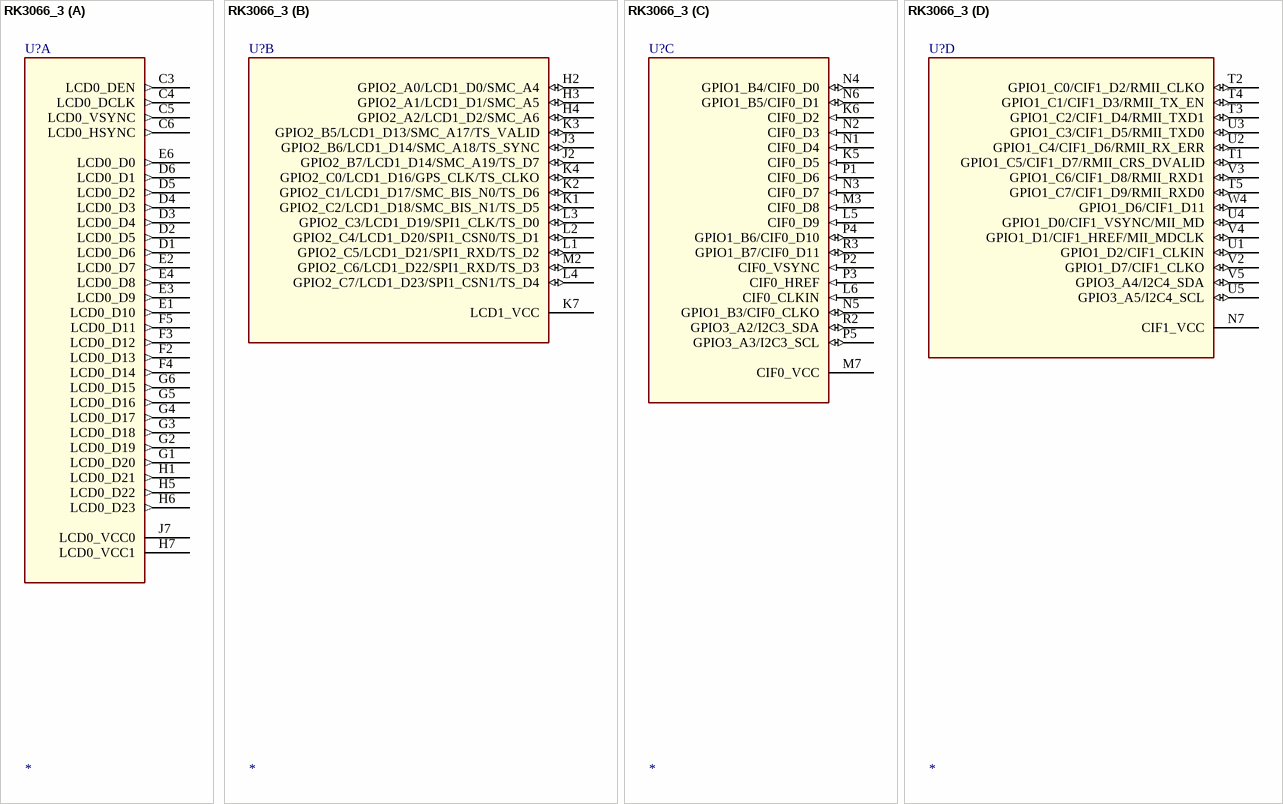
[diagram p153: symbol RK3066_3]

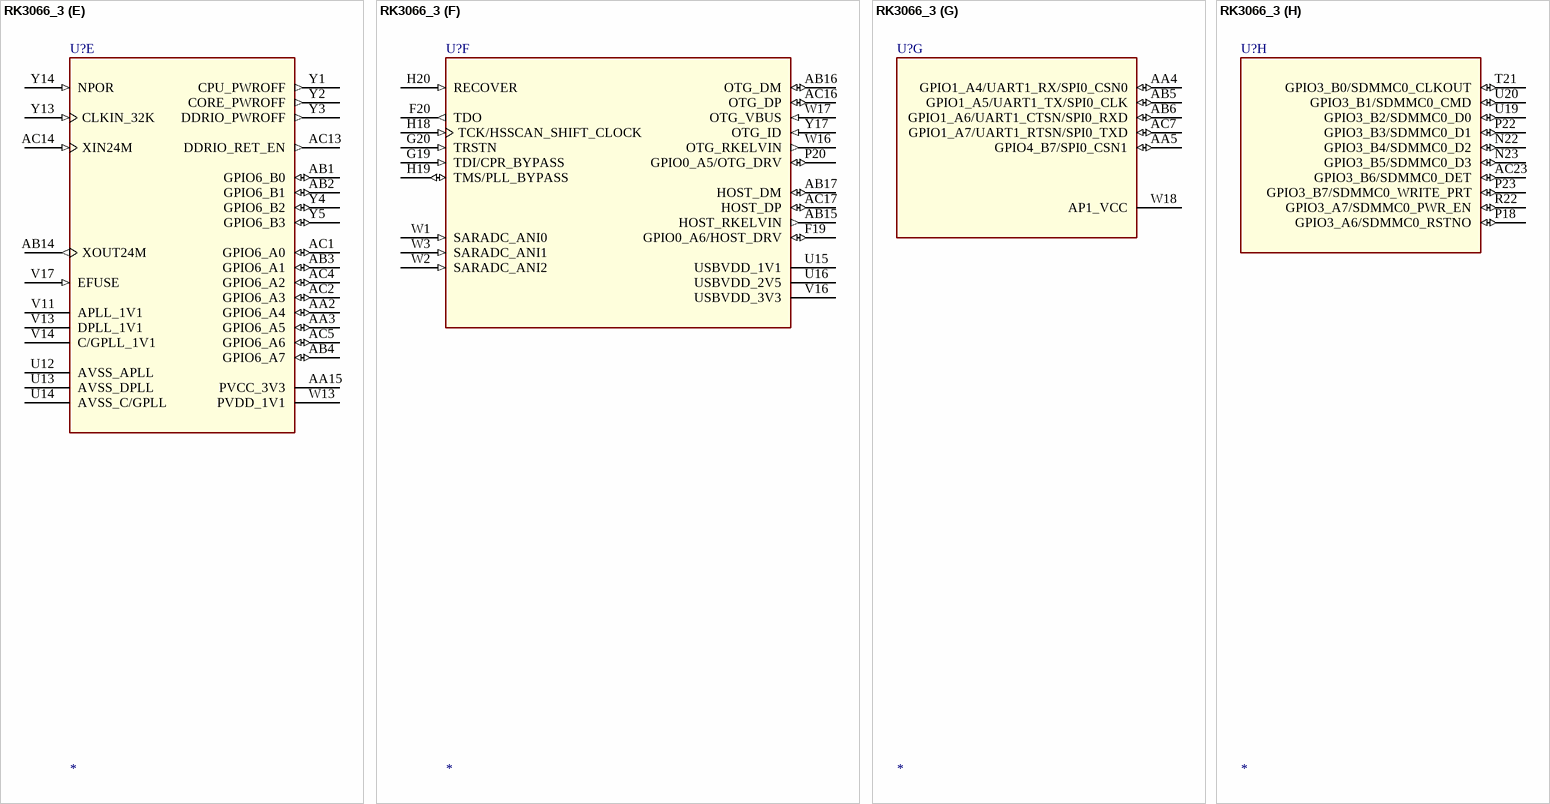
[diagram p154: symbol RK3066_3]

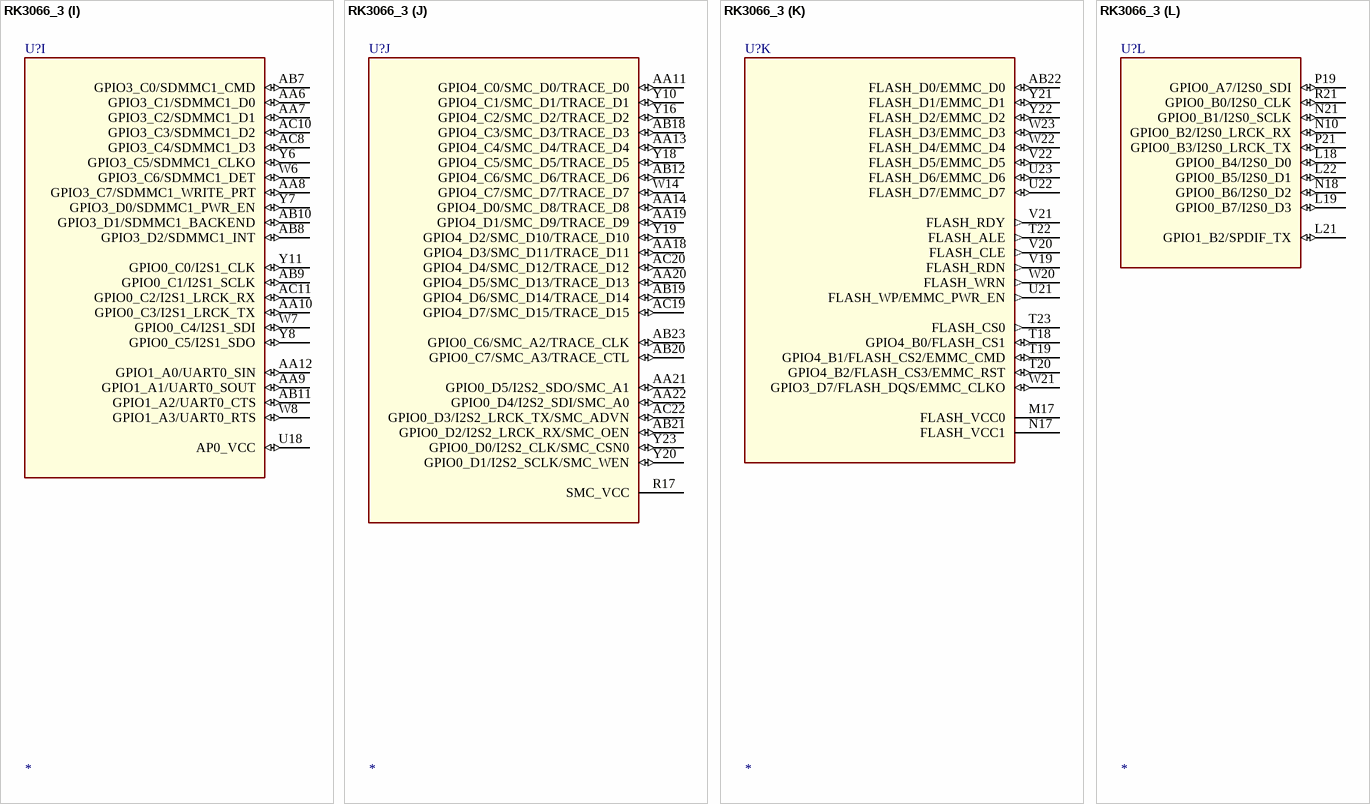
[diagram p155: symbol RK3066_3]

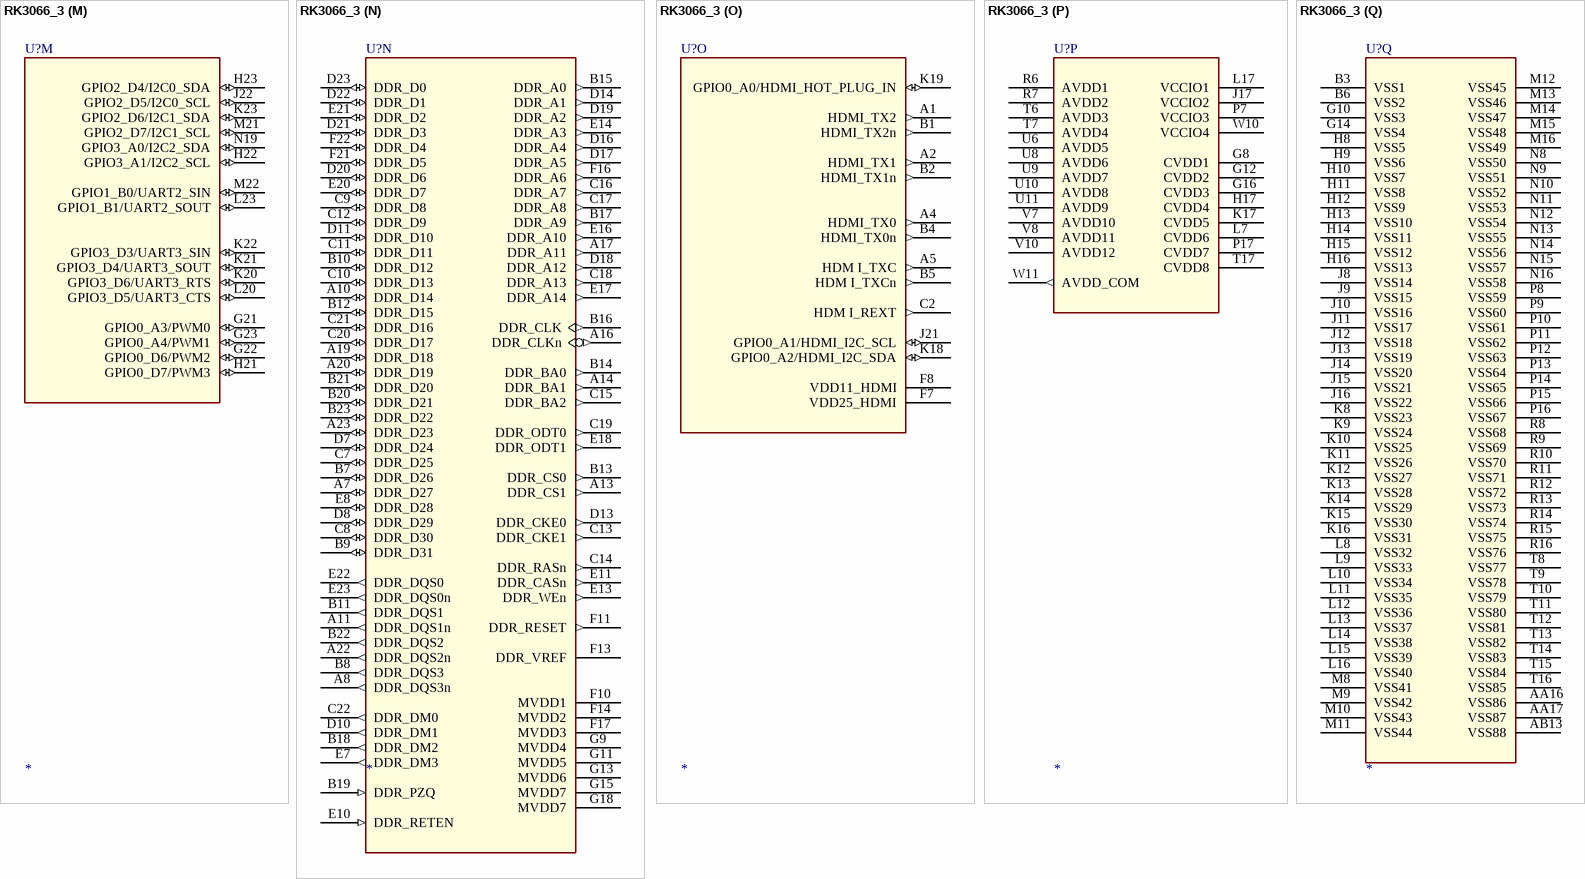
[diagram p156: symbol RK3066_3]

## RK3066_3
designator U?
footprint BGA453
part A pins: C3 LCD0_DEN (out), C4 LCD0_DCLK (out), C5 LCD0_VSYNC (out), C6 LCD0_HSYNC (out), D1 LCD0_D6 (out), D2 LCD0_D5 (out), D3 LCD0_D4 (out), D4 LCD0_D3 (out), D5 LCD0_D2 (out), D6 LCD0_D1 (out), E1 LCD0_D10 (out), E2 LCD0_D7 (out), E3 LCD0_D9 (out), E4 LCD0_D8 (out), E6 LCD0_D0 (out), F2 LCD0_D13 (out), F3 LCD0_D12 (out), F4 LCD0_D14 (out), F5 LCD0_D11 (out), G1 LCD0_D20 (out), G2 LCD0_D19 (out), G3 LCD0_D18 (out), G4 LCD0_D17 (out), G5 LCD0_D16 (out), G6 LCD0_D15 (out), H1 LCD0_D21 (out), H5 LCD0_D22 (out), H6 LCD0_D23 (out), H7 LCD0_VCC1 (power), J7 LCD0_VCC0 (power)
part B pins: H2 GPIO2_A0/LCD1_D0/SMC_A4 (io), H3 GPIO2_A1/LCD1_D1/SMC_A5 (io), H4 GPIO2_A2/LCD1_D2/SMC_A6 (io), J2 GPIO2_B7/LCD1_D14/SMC_A19/TS_D7 (io), J3 GPIO2_B6/LCD1_D14/SMC_A18/TS_SYNC (io), K1 GPIO2_C2/LCD1_D18/SMC_BIS_N1/TS_D5 (io), K2 GPIO2_C1/LCD1_D17/SMC_BIS_N0/TS_D6 (io), K3 GPIO2_B5/LCD1_D13/SMC_A17/TS_VALID (io), K4 GPIO2_C0/LCD1_D16/GPS_CLK/TS_CLKO (io), K7 LCD1_VCC (power), L1 GPIO2_C5/LCD1_D21/SPI1_RXD/TS_D2 (io), L2 GPIO2_C4/LCD1_D20/SPI1_CSN0/TS_D1 (io), L3 GPIO2_C3/LCD1_D19/SPI1_CLK/TS_D0 (io), L4 GPIO2_C7/LCD1_D23/SPI1_CSN1/TS_D4 (io), M2 GPIO2_C6/LCD1_D22/SPI1_RXD/TS_D3 (io)
part C pins: K5 CIF0_D5 (in), K6 CIF0_D2 (in), L5 CIF0_D9 (in), L6 CIF0_CLKIN (in), M3 CIF0_D8 (in), M7 CIF0_VCC (power), N1 CIF0_D4 (in), N2 CIF0_D3 (in), N3 CIF0_D7 (in), N4 GPIO1_B4/CIF0_D0 (io), N5 GPIO1_B3/CIF0_CLKO (io), N6 GPIO1_B5/CIF0_D1 (io), P1 CIF0_D6 (in), P2 CIF0_VSYNC (in), P3 CIF0_HREF (in), P4 GPIO1_B6/CIF0_D10 (io), P5 GPIO3_A3/I2C3_SCL (io), R2 GPIO3_A2/I2C3_SDA (io), R3 GPIO1_B7/CIF0_D11 (io)
part D pins: N7 CIF1_VCC (power), T1 GPIO1_C5/CIF1_D7/RMII_CRS_DVALID (io), T2 GPIO1_C0/CIF1_D2/RMII_CLKO (io), T3 GPIO1_C2/CIF1_D4/RMII_TXD1 (io), T4 GPIO1_C1/CIF1_D3/RMII_TX_EN (io), T5 GPIO1_C7/CIF1_D9/RMII_RXD0 (io), U1 GPIO1_D2/CIF1_CLKIN (io), U2 GPIO1_C4/CIF1_D6/RMII_RX_ERR (io), U3 GPIO1_C3/CIF1_D5/RMII_TXD0 (io), U4 GPIO1_D0/CIF1_VSYNC/MII_MD (io), U5 GPIO3_A5/I2C4_SCL (io), V2 GPIO1_D7/CIF1_CLKO (io), V3 GPIO1_C6/CIF1_D8/RMII_RXD1 (io), V4 GPIO1_D1/CIF1_HREF/MII_MDCLK (io), V5 GPIO3_A4/I2C4_SDA (io), W4 GPIO1_D6/CIF1_D11 (io)
part E pins: AA2 GPIO6_A4 (io), AA3 GPIO6_A5 (io), AA15 PVCC_3V3 (power), AB1 GPIO6_B0 (io), AB2 GPIO6_B1 (io), AB3 GPIO6_A1 (io), AB4 GPIO6_A7 (io), AB14 XOUT24M (out), AC1 GPIO6_A0 (io), AC2 GPIO6_A3 (io), AC4 GPIO6_A2 (io), AC5 GPIO6_A6 (io), AC13 DDRIO_RET_EN (out), AC14 XIN24M (in), U12 AVSS_APLL (power), U13 AVSS_DPLL (power), U14 AVSS_C/GPLL (power), V11 APLL_1V1 (power), V13 DPLL_1V1 (power), V14 C/GPLL_1V1 (power), V17 EFUSE (in), W13 PVDD_1V1 (power), Y1 CPU_PWROFF (out), Y2 CORE_PWROFF (out), Y3 DDRIO_PWROFF (out), Y4 GPIO6_B2 (io), Y5 GPIO6_B3 (io), Y13 CLKIN_32K (in), Y14 NPOR (in)
part F pins: AB15 HOST_RKELVIN (out), AB16 OTG_DM (io), AB17 HOST_DM (io), AC16 OTG_DP (io), AC17 HOST_DP (io), F19 GPIO0_A6/HOST_DRV (io), F20 TDO (out), G19 TDI/CPR_BYPASS (in), G20 TRSTN (in), H18 TCK/HSSCAN_SHIFT_CLOCK (in), H19 TMS/PLL_BYPASS (io), H20 RECOVER (in), P20 GPIO0_A5/OTG_DRV (io), U15 USBVDD_1V1 (power), U16 USBVDD_2V5 (power), V16 USBVDD_3V3 (power), W1 SARADC_ANI0 (in), W2 SARADC_ANI2 (in), W3 SARADC_ANI1 (in), W16 OTG_RKELVIN (out), W17 OTG_VBUS (in), Y17 OTG_ID (in)
part G pins: AA4 GPIO1_A4/UART1_RX/SPI0_CSN0 (io), AA5 GPIO4_B7/SPI0_CSN1 (io), AB5 GPIO1_A5/UART1_TX/SPI0_CLK (io), AB6 GPIO1_A6/UART1_CTSN/SPI0_RXD (io), AC7 GPIO1_A7/UART1_RTSN/SPI0_TXD (io), W18 AP1_VCC (power)
part H pins: AC23 GPIO3_B6/SDMMC0_DET (io), N22 GPIO3_B4/SDMMC0_D2 (io), N23 GPIO3_B5/SDMMC0_D3 (io), P18 GPIO3_A6/SDMMC0_RSTNO (io), P22 GPIO3_B3/SDMMC0_D1 (io), P23 GPIO3_B7/SDMMC0_WRITE_PRT (io), R22 GPIO3_A7/SDMMC0_PWR_EN (io), T21 GPIO3_B0/SDMMC0_CLKOUT (io), U19 GPIO3_B2/SDMMC0_D0 (io), U20 GPIO3_B1/SDMMC0_CMD (io)
part I pins: AA6 GPIO3_C1/SDMMC1_D0 (io), AA7 GPIO3_C2/SDMMC1_D1 (io), AA8 GPIO3_C7/SDMMC1_WRITE_PRT (io), AA9 GPIO1_A1/UART0_SOUT (io), AA10 GPIO0_C3/I2S1_LRCK_TX (io), AA12 GPIO1_A0/UART0_SIN (io), AB7 GPIO3_C0/SDMMC1_CMD (io), AB8 GPIO3_D2/SDMMC1_INT (io), AB9 GPIO0_C1/I2S1_SCLK (io), AB10 GPIO3_D1/SDMMC1_BACKEND (io), AB11 GPIO1_A2/UART0_CTS (io), AC8 GPIO3_C4/SDMMC1_D3 (io), AC10 GPIO3_C3/SDMMC1_D2 (io), AC11 GPIO0_C2/I2S1_LRCK_RX (io), U18 AP0_VCC (io), W6 GPIO3_C6/SDMMC1_DET (io), W7 GPIO0_C4/I2S1_SDI (io), W8 GPIO1_A3/UART0_RTS (io), Y6 GPIO3_C5/SDMMC1_CLKO (io), Y7 GPIO3_D0/SDMMC1_PWR_EN (io), Y8 GPIO0_C5/I2S1_SDO (io), Y11 GPIO0_C0/I2S1_CLK (io)
part J pins: AA11 GPIO4_C0/SMC_D0/TRACE_D0 (io), AA13 GPIO4_C4/SMC_D4/TRACE_D4 (io), AA14 GPIO4_D0/SMC_D8/TRACE_D8 (io), AA18 GPIO4_D3/SMC_D11/TRACE_D11 (io), AA19 GPIO4_D1/SMC_D9/TRACE_D9 (io), AA20 GPIO4_D5/SMC_D13/TRACE_D13 (io), AA21 GPIO0_D5/I2S2_SDO/SMC_A1 (io), AA22 GPIO0_D4/I2S2_SDI/SMC_A0 (io), AB12 GPIO4_C6/SMC_D6/TRACE_D6 (io), AB18 GPIO4_C3/SMC_D3/TRACE_D3 (io), AB19 GPIO4_D6/SMC_D14/TRACE_D14 (io), AB20 GPIO0_C7/SMC_A3/TRACE_CTL (io), AB21 GPIO0_D2/I2S2_LRCK_RX/SMC_OEN (io), AB23 GPIO0_C6/SMC_A2/TRACE_CLK (io), AC19 GPIO4_D7/SMC_D15/TRACE_D15 (io), AC20 GPIO4_D4/SMC_D12/TRACE_D12 (io), AC22 GPIO0_D3/I2S2_LRCK_TX/SMC_ADVN (io), R17 SMC_VCC (power), W14 GPIO4_C7/SMC_D7/TRACE_D7 (io), Y10 GPIO4_C1/SMC_D1/TRACE_D1 (io), Y16 GPIO4_C2/SMC_D2/TRACE_D2 (io), Y18 GPIO4_C5/SMC_D5/TRACE_D5 (io), Y19 GPIO4_D2/SMC_D10/TRACE_D10 (io), Y20 GPIO0_D1/I2S2_SCLK/SMC_WEN (io), Y23 GPIO0_D0/I2S2_CLK/SMC_CSN0 (io)
part K pins: AB22 FLASH_D0/EMMC_D0 (io), M17 FLASH_VCC0 (power), N17 FLASH_VCC1 (power), T18 GPIO4_B0/FLASH_CS1 (io), T19 GPIO4_B1/FLASH_CS2/EMMC_CMD (io), T20 GPIO4_B2/FLASH_CS3/EMMC_RST (io), T22 FLASH_ALE (out), T23 FLASH_CS0 (out), U21 FLASH_WP/EMMC_PWR_EN (out), U22 FLASH_D7/EMMC_D7 (io), U23 FLASH_D6/EMMC_D6 (io), V19 FLASH_RDN (out), V20 FLASH_CLE (out), V21 FLASH_RDY (out), V22 FLASH_D5/EMMC_D5 (io), W20 FLASH_WRN (out), W21 GPIO3_D7/FLASH_DQS/EMMC_CLKO (io), W22 FLASH_D4/EMMC_D4 (io), W23 FLASH_D3/EMMC_D3 (io), Y21 FLASH_D1/EMMC_D1 (io), Y22 FLASH_D2/EMMC_D2 (io)
part L pins: L18 GPIO0_B4/I2S0_D0 (io), L19 GPIO0_B7/I2S0_D3 (io), L21 GPIO1_B2/SPDIF_TX (io), L22 GPIO0_B5/I2S0_D1 (io), N10 GPIO0_B2/I2S0_LRCK_RX (io), N18 GPIO0_B6/I2S0_D2 (io), N21 GPIO0_B1/I2S0_SCLK (io), P19 GPIO0_A7/I2S0_SDI (io), P21 GPIO0_B3/I2S0_LRCK_TX (io), R21 GPIO0_B0/I2S0_CLK (io)
part M pins: G21 GPIO0_A3/PWM0 (io), G22 GPIO0_D6/PWM2 (io), G23 GPIO0_A4/PWM1 (io), H21 GPIO0_D7/PWM3 (io), H22 GPIO3_A1/I2C2_SCL (io), H23 GPIO2_D4/I2C0_SDA (io), J22 GPIO2_D5/I2C0_SCL (io), K20 GPIO3_D6/UART3_RTS (io), K21 GPIO3_D4/UART3_SOUT (io), K22 GPIO3_D3/UART3_SIN (io), K23 GPIO2_D6/I2C1_SDA (io), L20 GPIO3_D5/UART3_CTS (io), L23 GPIO1_B1/UART2_SOUT (io), M21 GPIO2_D7/I2C1_SCL (io), M22 GPIO1_B0/UART2_SIN (io), N19 GPIO3_A0/I2C2_SDA (io)
part N pins: A7 DDR_D27 (io), A8 DDR_DQS3n (out), A10 DDR_D14 (io), A11 DDR_DQS1n (out), A13 DDR_CS1 (out), A14 DDR_BA1 (out), A16 DDR_CLKn (out), A17 DDR_A11 (out), A19 DDR_D18 (io), A20 DDR_D19 (io), A22 DDR_DQS2n (out), A23 DDR_D23 (io), B7 DDR_D26 (io), B8 DDR_DQS3 (out), B9 DDR_D31 (io), B10 DDR_D12 (io), B11 DDR_DQS1 (out), B12 DDR_D15 (io), B13 DDR_CS0 (out), B14 DDR_BA0 (out), B15 DDR_A0 (out), B16 DDR_CLK (out), B17 DDR_A9 (out), B18 DDR_DM2 (out), B19 DDR_PZQ (in), B20 DDR_D21 (io), B21 DDR_D20 (io), B22 DDR_DQS2 (out), B23 DDR_D22 (io), C7 DDR_D25 (io), C8 DDR_D30 (io), C9 DDR_D8 (io), C10 DDR_D13 (io), C11 DDR_D11 (io), C12 DDR_D9 (io), C13 DDR_CKE1 (out), C14 DDR_RASn (out), C15 DDR_BA2 (out), C16 DDR_A7 (out), C17 DDR_A8 (out), C18 DDR_A13 (out), C19 DDR_ODT0 (out), C20 DDR_D17 (io), C21 DDR_D16 (io), C22 DDR_DM0 (out), D7 DDR_D24 (io), D8 DDR_D29 (io), D10 DDR_DM1 (out), D11 DDR_D10 (io), D13 DDR_CKE0 (out), D14 DDR_A1 (out), D16 DDR_A4 (out), D17 DDR_A5 (out), D18 DDR_A12 (out), D19 DDR_A2 (out), D20 DDR_D6 (io), D21 DDR_D3 (io), D22 DDR_D1 (io), D23 DDR_D0 (io), E7 DDR_DM3 (out), E8 DDR_D28 (io), E10 DDR_RETEN (in), E11 DDR_CASn (out), E13 DDR_WEn (out), E14 DDR_A3 (out), E16 DDR_A10 (out), E17 DDR_A14 (out), E18 DDR_ODT1 (out), E20 DDR_D7 (io), E21 DDR_D2 (io), E22 DDR_DQS0 (out), E23 DDR_DQS0n (out), F10 MVDD1 (power), F11 DDR_RESET (out), F13 DDR_VREF (power), F14 MVDD2 (power), F16 DDR_A6 (out), F17 MVDD3 (power), F21 DDR_D5 (io), F22 DDR_D4 (io), G9 MVDD4 (power), G11 MVDD5 (power), G13 MVDD6 (power), G15 MVDD7 (power), G18 MVDD7 (power)
part O pins: A1 HDMI_TX2 (out), A2 HDMI_TX1 (out), A4 HDMI_TX0 (out), A5 HDM I_TXC (out), B1 HDMI_TX2n (out), B2 HDMI_TX1n (out), B4 HDMI_TX0n (out), B5 HDM I_TXCn (out), C2 HDM I_REXT (out), F7 VDD25_HDMI (power), F8 VDD11_HDMI (power), J21 GPIO0_A1/HDMI_I2C_SCL (io), K18 GPIO0_A2/HDMI_I2C_SDA (io), K19 GPIO0_A0/HDMI_HOT_PLUG_IN (io)
part P pins: G8 CVDD1 (power), G12 CVDD2 (power), G16 CVDD3 (power), H17 CVDD4 (power), J17 VCCIO2 (power), K17 CVDD5 (power), L7 CVDD6 (power), L17 VCCIO1 (power), P7 VCCIO3 (power), P17 CVDD7 (power), R6 AVDD1 (power), R7 AVDD2 (power), T6 AVDD3 (power), T7 AVDD4 (power), T17 CVDD8 (power), U6 AVDD5 (power), U8 AVDD6 (power), U9 AVDD7 (power), U10 AVDD8 (power), U11 AVDD9 (power), V7 AVDD10 (power), V8 AVDD11 (power), V10 AVDD12 (power), W10 VCCIO4 (power), W11 AVDD_COM (out)
part Q pins: AA16 VSS86 (power), AA17 VSS87 (power), AB13 VSS88 (power), B3 VSS1 (power), B6 VSS2 (power), G10 VSS3 (power), G14 VSS4 (power), H8 VSS5 (power), H9 VSS6 (power), H10 VSS7 (power), H11 VSS8 (power), H12 VSS9 (power), H13 VSS10 (power), H14 VSS11 (power), H15 VSS12 (power), H16 VSS13 (power), J8 VSS14 (power), J9 VSS15 (power), J10 VSS16 (power), J11 VSS17 (power), J12 VSS18 (power), J13 VSS19 (power), J14 VSS20 (power), J15 VSS21 (power), J16 VSS22 (power), K8 VSS23 (power), K9 VSS24 (power), K10 VSS25 (power), K11 VSS26 (power), K12 VSS27 (power), K13 VSS28 (power), K14 VSS29 (power), K15 VSS30 (power), K16 VSS31 (power), L8 VSS32 (power), L9 VSS33 (power), L10 VSS34 (power), L11 VSS35 (power), L12 VSS36 (power), L13 VSS37 (power), L14 VSS38 (power), L15 VSS39 (power), L16 VSS40 (power), M8 VSS41 (power), M9 VSS42 (power), M10 VSS43 (power), M11 VSS44 (power), M12 VSS45 (power), M13 VSS46 (power), M14 VSS47 (power), M15 VSS48 (power), M16 VSS49 (power), N8 VSS50 (power), N9 VSS51 (power), N10 VSS52 (power), N11 VSS53 (power), N12 VSS54 (power), N13 VSS55 (power), N14 VSS56 (power), N15 VSS57 (power), N16 VSS58 (power), P8 VSS59 (power), P9 VSS60 (power), P10 VSS61 (power), P11 VSS62 (power), P12 VSS63 (power), P13 VSS64 (power), P14 VSS65 (power), P15 VSS66 (power), P16 VSS67 (power), R8 VSS68 (power), R9 VSS69 (power), R10 VSS70 (power), R11 VSS71 (power), R12 VSS72 (power), R13 VSS73 (power), R14 VSS74 (power), R15 VSS75 (power), R16 VSS76 (power), T8 VSS77 (power), T9 VSS78 (power), T10 VSS79 (power), T11 VSS80 (power), T12 VSS81 (power), T13 VSS82 (power), T14 VSS83 (power), T15 VSS84 (power), T16 VSS85 (power)

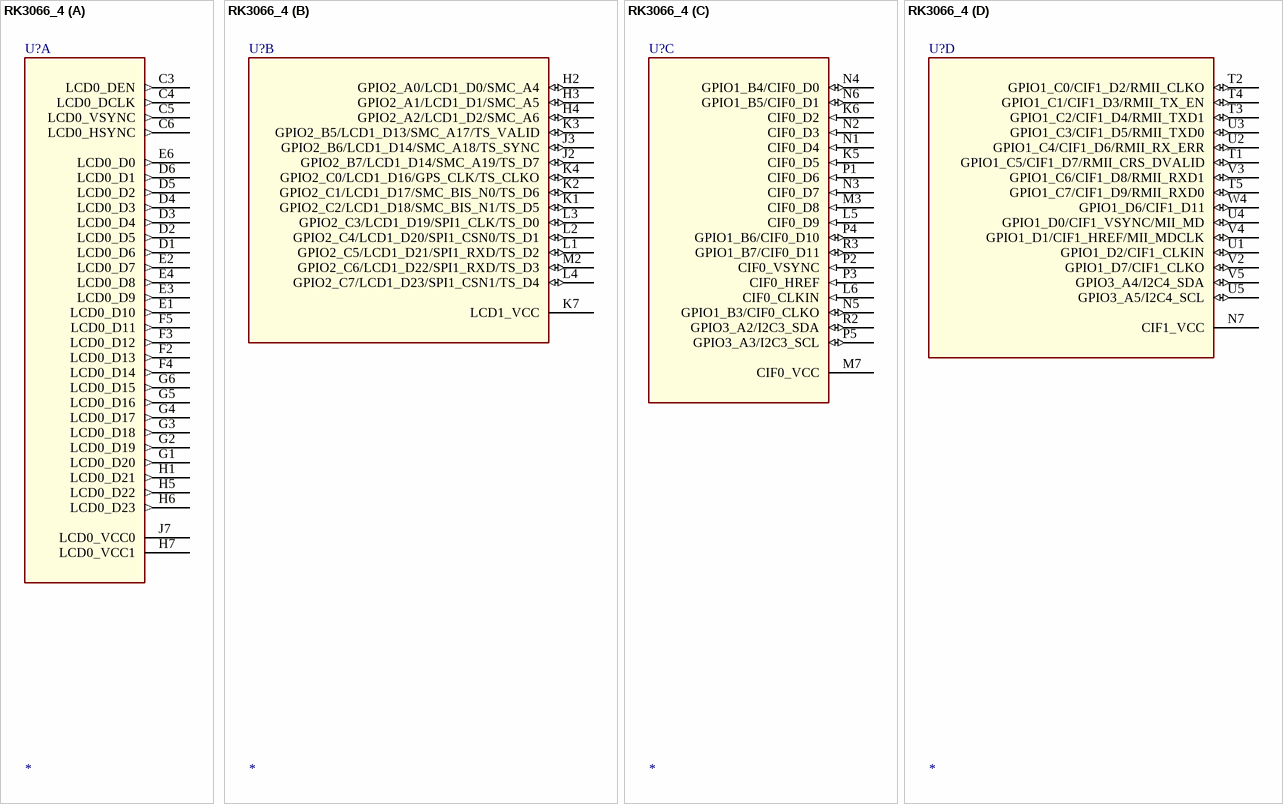
[diagram p157: symbol RK3066_4]

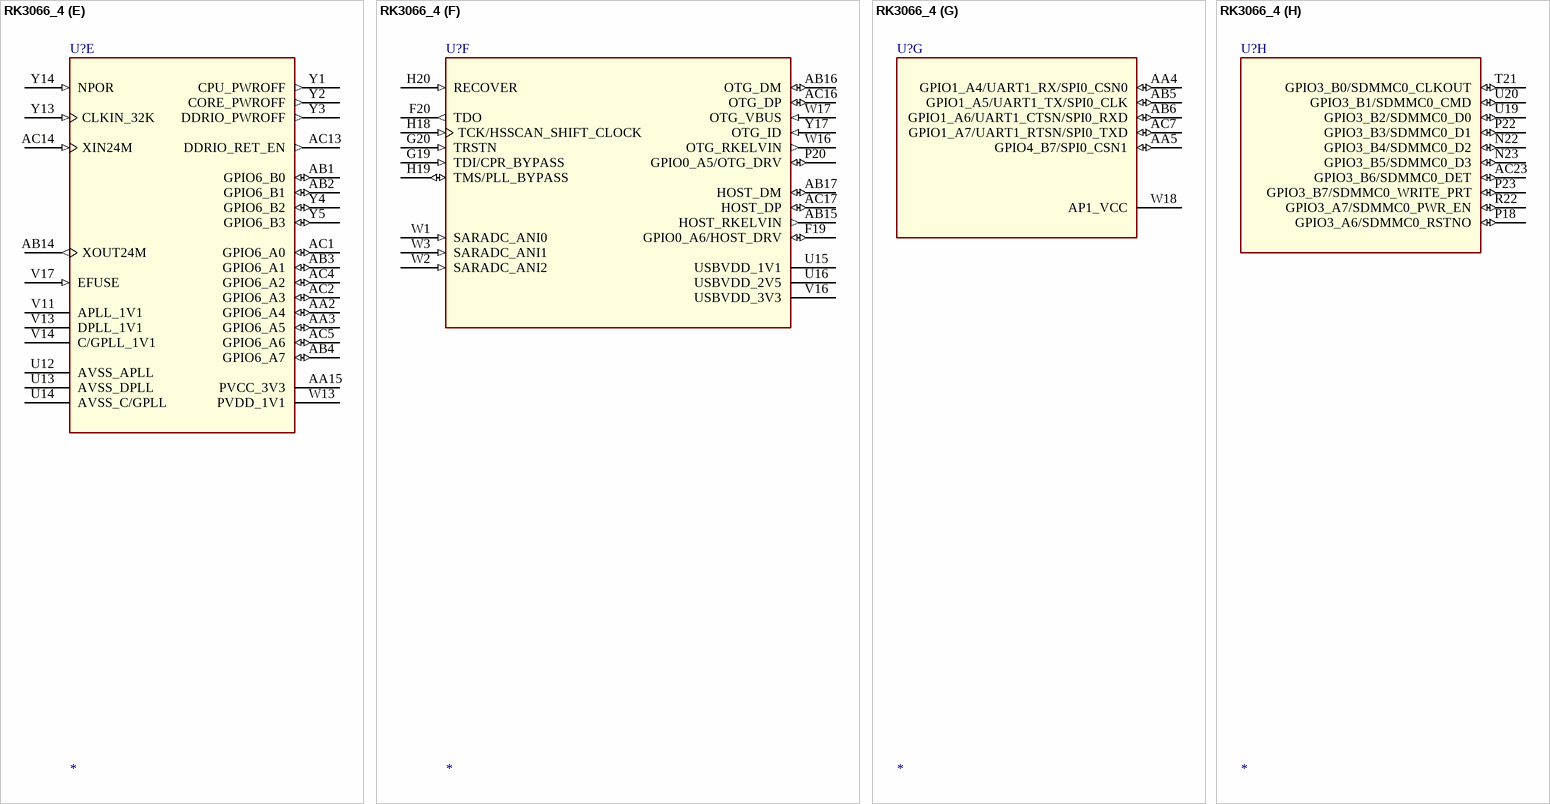
[diagram p158: symbol RK3066_4]

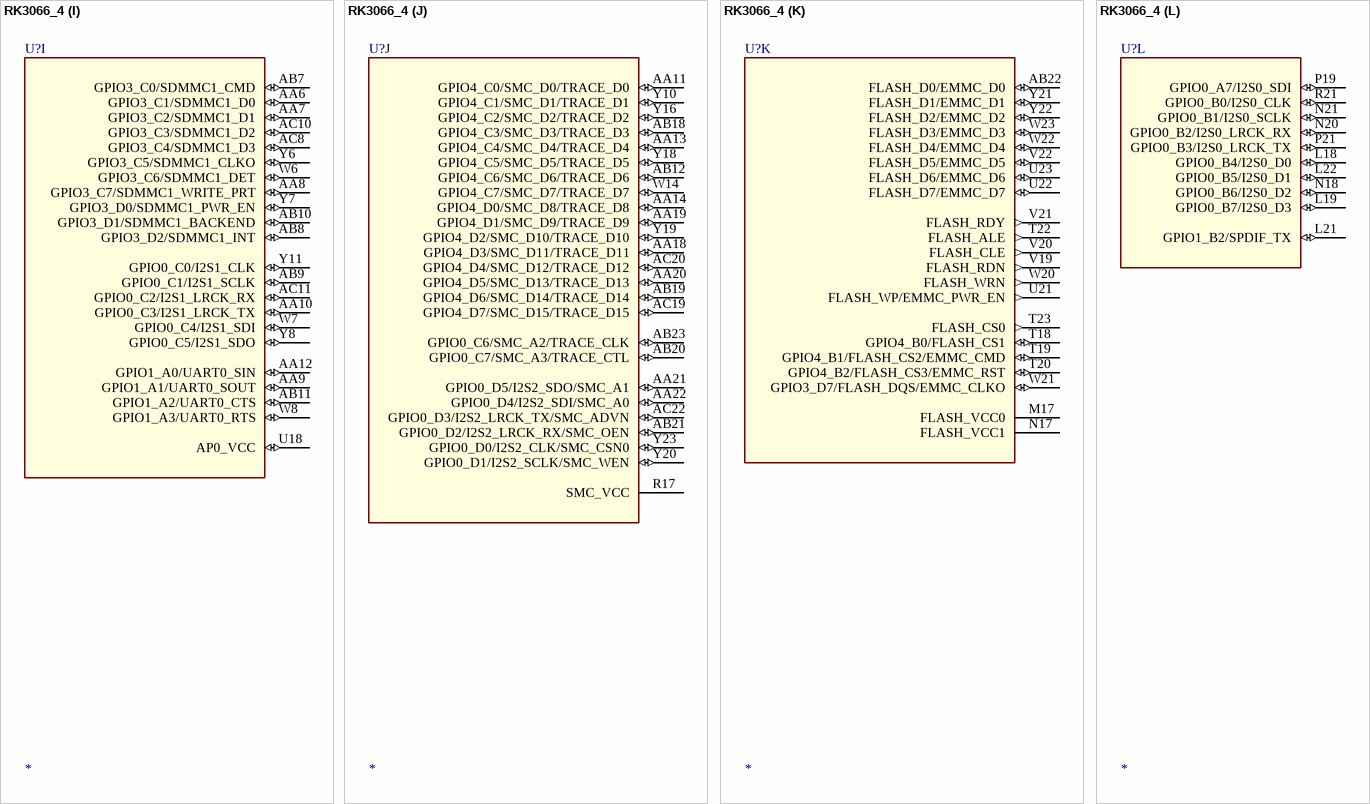
[diagram p159: symbol RK3066_4]

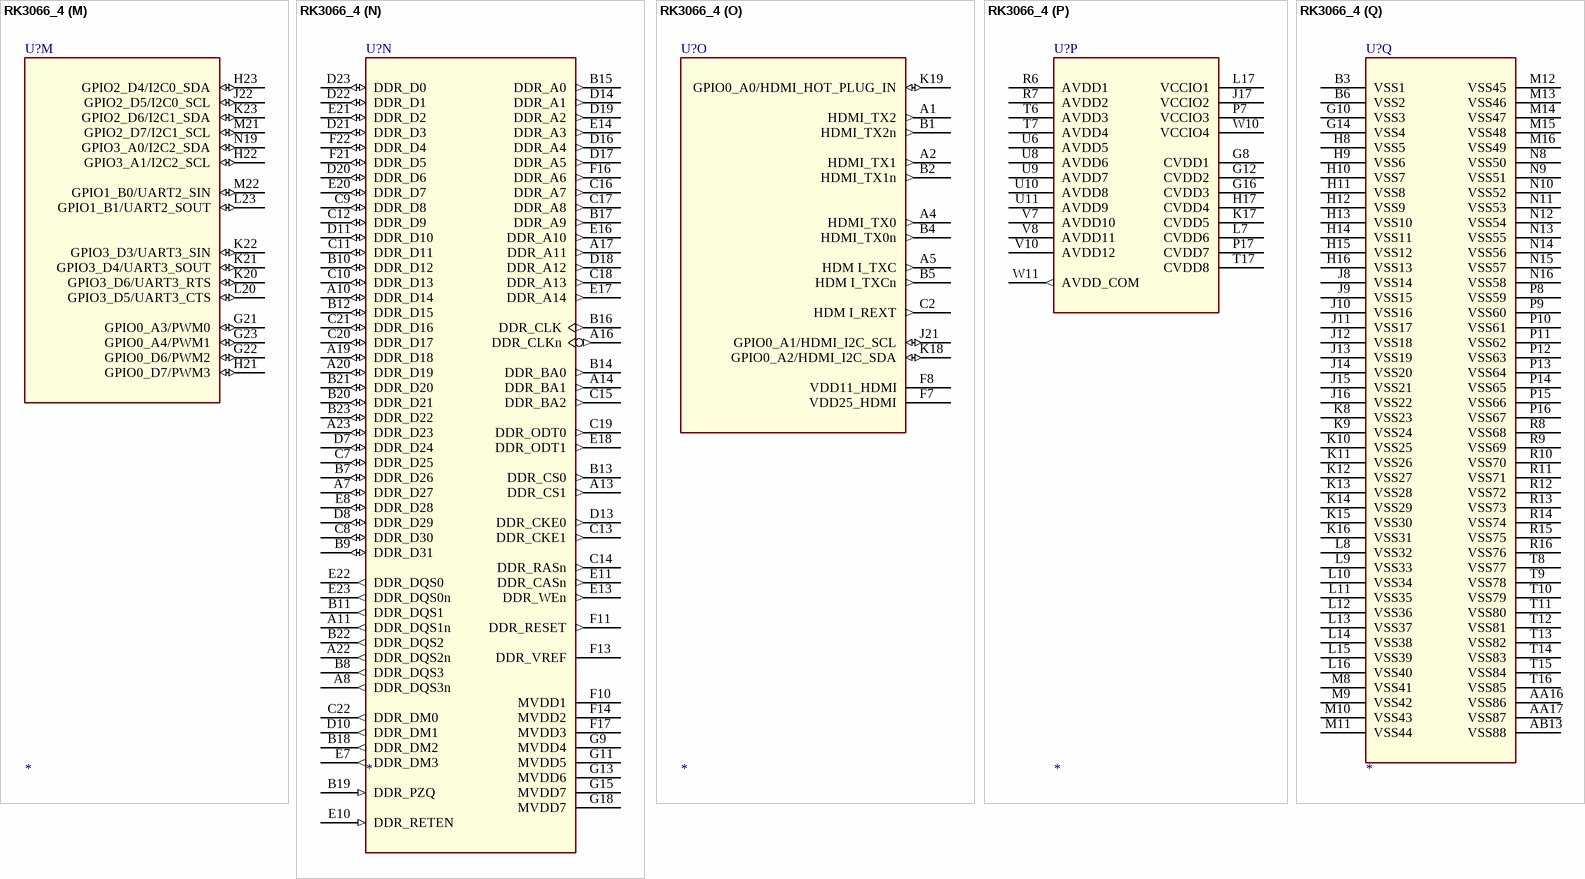
[diagram p160: symbol RK3066_4]